# Altium schematic symbol library Luminary+Micro.SchLib: 208 symbols (part 1 of 5)
Pins are listed as number, name and electrical type; pins without a type are passive.

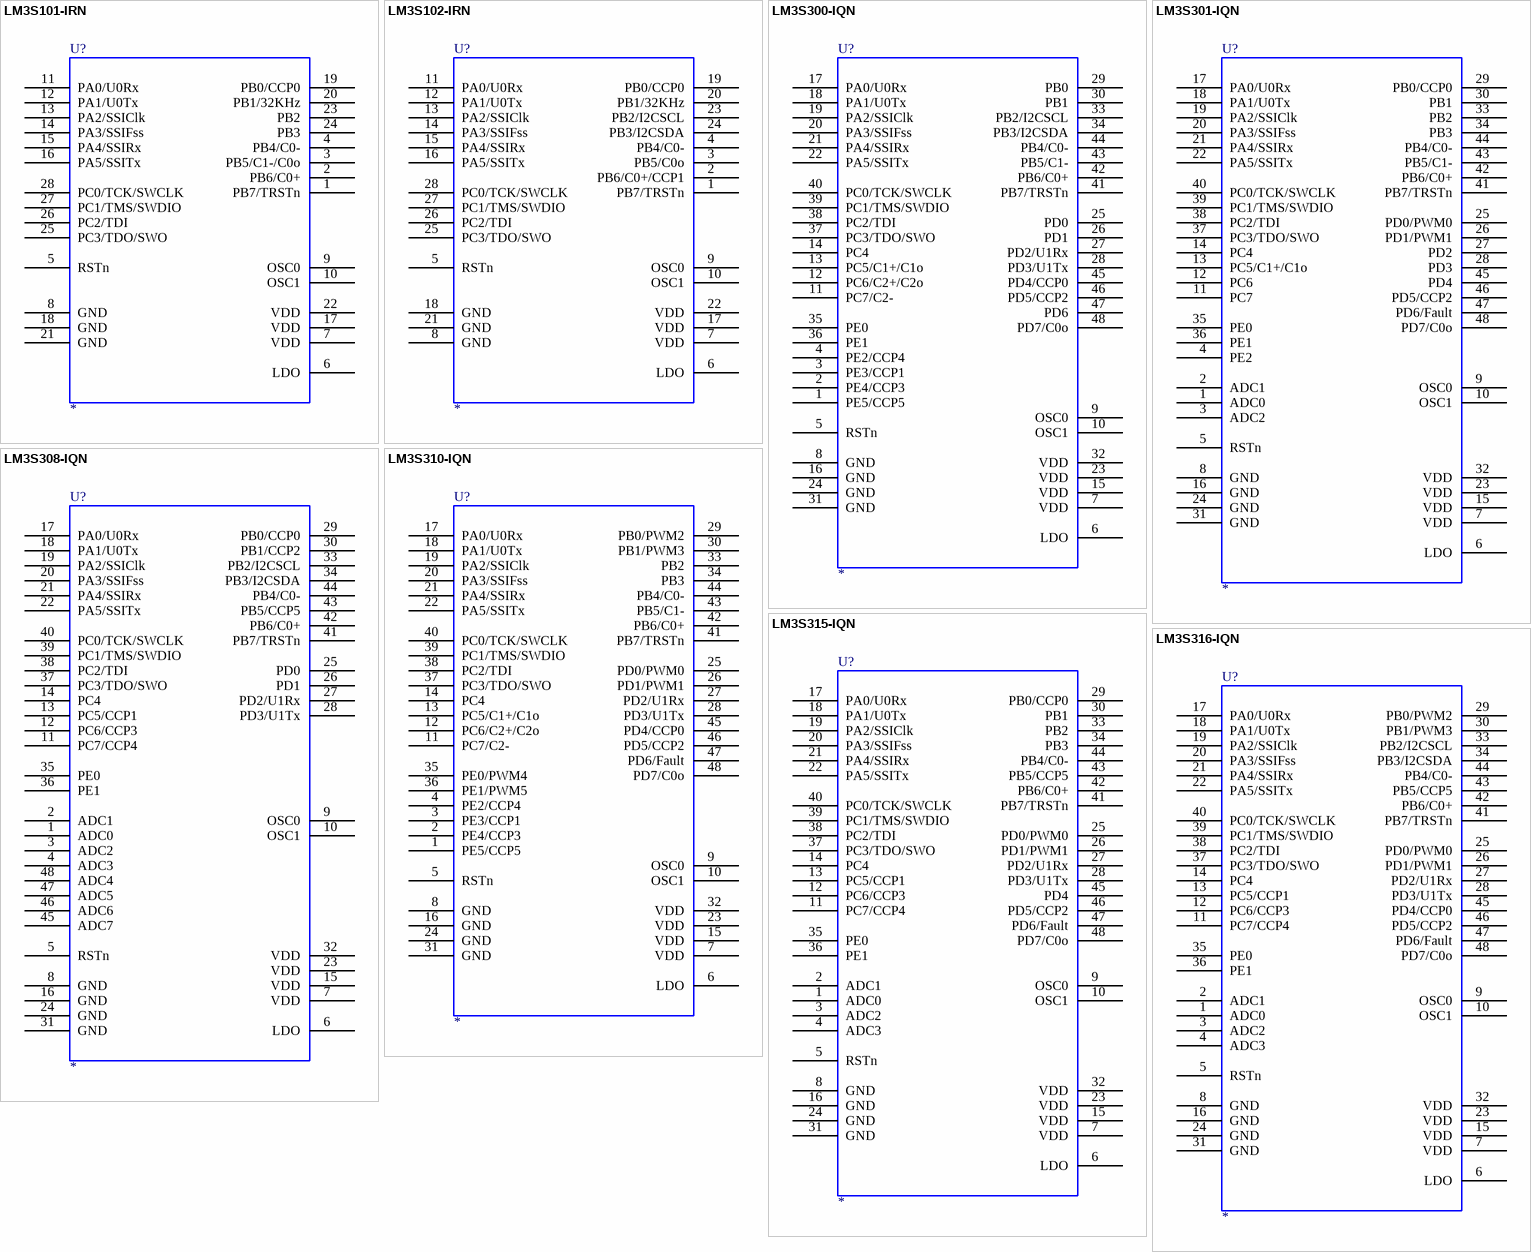
[diagram p0: symbols LM3S101-IRN to LM3S316-IQN]

## LM3S101-IRN
designator U?
Stellaris ARM Cortex-M3 Microcontroller; MFG: Luminary Micro; Ordering: LM3S101; LMI Class: Sandstorm
footprint SOIC127P1033X265-28N (SOIC,1.27mm pitch;28 pin,7.50mm W X 18.10mm L X 2.65mm H body)
pins: 1 PB7/TRSTn, 2 PB6/C0+, 3 PB5/C1-/C0o, 4 PB4/C0-, 5 RSTn, 6 LDO, 7 VDD, 8 GND, 9 OSC0, 10 OSC1, 11 PA0/U0Rx, 12 PA1/U0Tx, 13 PA2/SSIClk, 14 PA3/SSIFss, 15 PA4/SSIRx, 16 PA5/SSITx, 17 VDD, 18 GND, 19 PB0/CCP0, 20 PB1/32KHz, 21 GND, 22 VDD, 23 PB2, 24 PB3, 25 PC3/TDO/SWO, 26 PC2/TDI, 27 PC1/TMS/SWDIO, 28 PC0/TCK/SWCLK

## LM3S102-IRN
designator U?
Stellaris ARM Cortex-M3 Microcontroller; MFG: Luminary Micro; Ordering: LM3S102; LMI Class: Sandstorm
footprint SOIC127P1033X265-28N
pins: 1 PB7/TRSTn, 2 PB6/C0+/CCP1, 3 PB5/C0o, 4 PB4/C0-, 5 RSTn, 6 LDO, 7 VDD, 8 GND, 9 OSC0, 10 OSC1, 11 PA0/U0Rx, 12 PA1/U0Tx, 13 PA2/SSIClk, 14 PA3/SSIFss, 15 PA4/SSIRx, 16 PA5/SSITx, 17 VDD, 18 GND, 19 PB0/CCP0, 20 PB1/32KHz, 21 GND, 22 VDD, 23 PB2/I2CSCL, 24 PB3/I2CSDA, 25 PC3/TDO/SWO, 26 PC2/TDI, 27 PC1/TMS/SWDIO, 28 PC0/TCK/SWCLK

## LM3S300-IQN
designator U?
Stellaris ARM Cortex-M3 Microcontroller; MFG: Luminary Micro; Ordering: LM3S300; LMI Class: Sandstorm
footprint QFP50P900X900X160-48N
pins: 1 PE5/CCP5, 2 PE4/CCP3, 3 PE3/CCP1, 4 PE2/CCP4, 5 RSTn, 6 LDO, 7 VDD, 8 GND, 9 OSC0, 10 OSC1, 11 PC7/C2-, 12 PC6/C2+/C2o, 13 PC5/C1+/C1o, 14 PC4, 15 VDD, 16 GND, 17 PA0/U0Rx, 18 PA1/U0Tx, 19 PA2/SSIClk, 20 PA3/SSIFss, 21 PA4/SSIRx, 22 PA5/SSITx, 23 VDD, 24 GND, 25 PD0, 26 PD1, 27 PD2/U1Rx, 28 PD3/U1Tx, 29 PB0, 30 PB1, 31 GND, 32 VDD, 33 PB2/I2CSCL, 34 PB3/I2CSDA, 35 PE0, 36 PE1, 37 PC3/TDO/SWO, 38 PC2/TDI, 39 PC1/TMS/SWDIO, 40 PC0/TCK/SWCLK, 41 PB7/TRSTn, 42 PB6/C0+, 43 PB5/C1-, 44 PB4/C0-, 45 PD4/CCP0, 46 PD5/CCP2, 47 PD6, 48 PD7/C0o

## LM3S301-IQN
designator U?
Stellaris ARM Cortex-M3 Microcontroller; MFG: Luminary Micro; Ordering: LM3S301; LMI Class: Sandstorm
footprint QFP50P900X900X160-48N
pins: 1 ADC0, 2 ADC1, 3 ADC2, 4 PE2, 5 RSTn, 6 LDO, 7 VDD, 8 GND, 9 OSC0, 10 OSC1, 11 PC7, 12 PC6, 13 PC5/C1+/C1o, 14 PC4, 15 VDD, 16 GND, 17 PA0/U0Rx, 18 PA1/U0Tx, 19 PA2/SSIClk, 20 PA3/SSIFss, 21 PA4/SSIRx, 22 PA5/SSITx, 23 VDD, 24 GND, 25 PD0/PWM0, 26 PD1/PWM1, 27 PD2, 28 PD3, 29 PB0/CCP0, 30 PB1, 31 GND, 32 VDD, 33 PB2, 34 PB3, 35 PE0, 36 PE1, 37 PC3/TDO/SWO, 38 PC2/TDI, 39 PC1/TMS/SWDIO, 40 PC0/TCK/SWCLK, 41 PB7/TRSTn, 42 PB6/C0+, 43 PB5/C1-, 44 PB4/C0-, 45 PD4, 46 PD5/CCP2, 47 PD6/Fault, 48 PD7/C0o

## LM3S308-IQN
designator U?
Stellaris ARM Cortex-M3 Microcontroller; MFG: Luminary Micro; Ordering: LM3S308; LMI Class: Sandstorm
footprint QFP50P900X900X160-48N
pins: 1 ADC0, 2 ADC1, 3 ADC2, 4 ADC3, 5 RSTn, 6 LDO, 7 VDD, 8 GND, 9 OSC0, 10 OSC1, 11 PC7/CCP4, 12 PC6/CCP3, 13 PC5/CCP1, 14 PC4, 15 VDD, 16 GND, 17 PA0/U0Rx, 18 PA1/U0Tx, 19 PA2/SSIClk, 20 PA3/SSIFss, 21 PA4/SSIRx, 22 PA5/SSITx, 23 VDD, 24 GND, 25 PD0, 26 PD1, 27 PD2/U1Rx, 28 PD3/U1Tx, 29 PB0/CCP0, 30 PB1/CCP2, 31 GND, 32 VDD, 33 PB2/I2CSCL, 34 PB3/I2CSDA, 35 PE0, 36 PE1, 37 PC3/TDO/SWO, 38 PC2/TDI, 39 PC1/TMS/SWDIO, 40 PC0/TCK/SWCLK, 41 PB7/TRSTn, 42 PB6/C0+, 43 PB5/CCP5, 44 PB4/C0-, 45 ADC7, 46 ADC6, 47 ADC5, 48 ADC4

## LM3S310-IQN
designator U?
Stellaris ARM Cortex-M3 Microcontroller; MFG: Luminary Micro; Ordering: LM3S310; LMI Class: Sandstorm
footprint QFP50P900X900X160-48N
pins: 1 PE5/CCP5, 2 PE4/CCP3, 3 PE3/CCP1, 4 PE2/CCP4, 5 RSTn, 6 LDO, 7 VDD, 8 GND, 9 OSC0, 10 OSC1, 11 PC7/C2-, 12 PC6/C2+/C2o, 13 PC5/C1+/C1o, 14 PC4, 15 VDD, 16 GND, 17 PA0/U0Rx, 18 PA1/U0Tx, 19 PA2/SSIClk, 20 PA3/SSIFss, 21 PA4/SSIRx, 22 PA5/SSITx, 23 VDD, 24 GND, 25 PD0/PWM0, 26 PD1/PWM1, 27 PD2/U1Rx, 28 PD3/U1Tx, 29 PB0/PWM2, 30 PB1/PWM3, 31 GND, 32 VDD, 33 PB2, 34 PB3, 35 PE0/PWM4, 36 PE1/PWM5, 37 PC3/TDO/SWO, 38 PC2/TDI, 39 PC1/TMS/SWDIO, 40 PC0/TCK/SWCLK, 41 PB7/TRSTn, 42 PB6/C0+, 43 PB5/C1-, 44 PB4/C0-, 45 PD4/CCP0, 46 PD5/CCP2, 47 PD6/Fault, 48 PD7/C0o

## LM3S315-IQN
designator U?
Stellaris ARM Cortex-M3 Microcontroller; MFG: Luminary Micro; Ordering: LM3S315; LMI Class: Sandstorm
footprint QFP50P900X900X160-48N
pins: 1 ADC0, 2 ADC1, 3 ADC2, 4 ADC3, 5 RSTn, 6 LDO, 7 VDD, 8 GND, 9 OSC0, 10 OSC1, 11 PC7/CCP4, 12 PC6/CCP3, 13 PC5/CCP1, 14 PC4, 15 VDD, 16 GND, 17 PA0/U0Rx, 18 PA1/U0Tx, 19 PA2/SSIClk, 20 PA3/SSIFss, 21 PA4/SSIRx, 22 PA5/SSITx, 23 VDD, 24 GND, 25 PD0/PWM0, 26 PD1/PWM1, 27 PD2/U1Rx, 28 PD3/U1Tx, 29 PB0/CCP0, 30 PB1, 31 GND, 32 VDD, 33 PB2, 34 PB3, 35 PE0, 36 PE1, 37 PC3/TDO/SWO, 38 PC2/TDI, 39 PC1/TMS/SWDIO, 40 PC0/TCK/SWCLK, 41 PB7/TRSTn, 42 PB6/C0+, 43 PB5/CCP5, 44 PB4/C0-, 45 PD4, 46 PD5/CCP2, 47 PD6/Fault, 48 PD7/C0o

## LM3S316-IQN
designator U?
Stellaris ARM Cortex-M3 Microcontroller; MFG: Luminary Micro; Ordering: LM3S316; LMI Class: Sandstorm
footprint QFP50P900X900X160-48N
pins: 1 ADC0, 2 ADC1, 3 ADC2, 4 ADC3, 5 RSTn, 6 LDO, 7 VDD, 8 GND, 9 OSC0, 10 OSC1, 11 PC7/CCP4, 12 PC6/CCP3, 13 PC5/CCP1, 14 PC4, 15 VDD, 16 GND, 17 PA0/U0Rx, 18 PA1/U0Tx, 19 PA2/SSIClk, 20 PA3/SSIFss, 21 PA4/SSIRx, 22 PA5/SSITx, 23 VDD, 24 GND, 25 PD0/PWM0, 26 PD1/PWM1, 27 PD2/U1Rx, 28 PD3/U1Tx, 29 PB0/PWM2, 30 PB1/PWM3, 31 GND, 32 VDD, 33 PB2/I2CSCL, 34 PB3/I2CSDA, 35 PE0, 36 PE1, 37 PC3/TDO/SWO, 38 PC2/TDI, 39 PC1/TMS/SWDIO, 40 PC0/TCK/SWCLK, 41 PB7/TRSTn, 42 PB6/C0+, 43 PB5/CCP5, 44 PB4/C0-, 45 PD4/CCP0, 46 PD5/CCP2, 47 PD6/Fault, 48 PD7/C0o

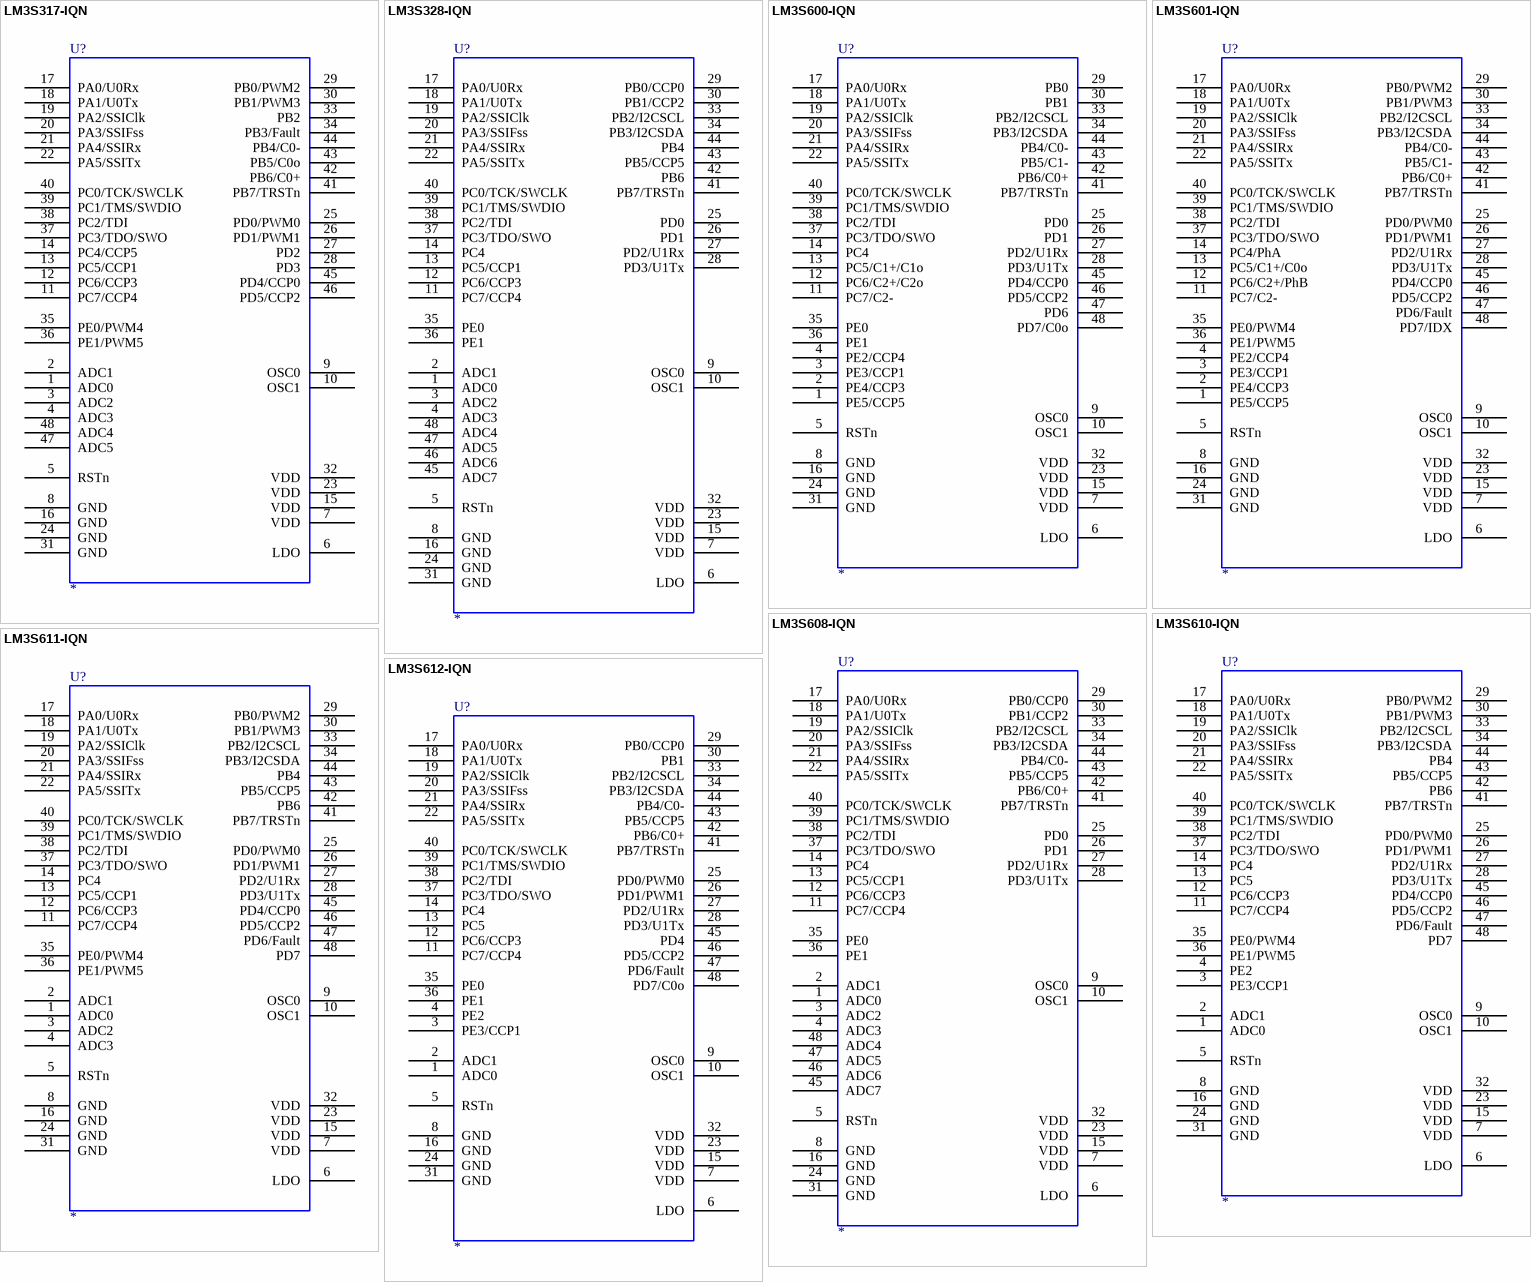
[diagram p1: symbols LM3S317-IQN to LM3S612-IQN]

## LM3S317-IQN
designator U?
Stellaris ARM Cortex-M3 Microcontroller; MFG: Luminary Micro; Ordering: LM3S317; LMI Class: Sandstorm
footprint QFP50P900X900X160-48N
pins: 1 ADC0, 2 ADC1, 3 ADC2, 4 ADC3, 5 RSTn, 6 LDO, 7 VDD, 8 GND, 9 OSC0, 10 OSC1, 11 PC7/CCP4, 12 PC6/CCP3, 13 PC5/CCP1, 14 PC4/CCP5, 15 VDD, 16 GND, 17 PA0/U0Rx, 18 PA1/U0Tx, 19 PA2/SSIClk, 20 PA3/SSIFss, 21 PA4/SSIRx, 22 PA5/SSITx, 23 VDD, 24 GND, 25 PD0/PWM0, 26 PD1/PWM1, 27 PD2, 28 PD3, 29 PB0/PWM2, 30 PB1/PWM3, 31 GND, 32 VDD, 33 PB2, 34 PB3/Fault, 35 PE0/PWM4, 36 PE1/PWM5, 37 PC3/TDO/SWO, 38 PC2/TDI, 39 PC1/TMS/SWDIO, 40 PC0/TCK/SWCLK, 41 PB7/TRSTn, 42 PB6/C0+, 43 PB5/C0o, 44 PB4/C0-, 45 PD4/CCP0, 46 PD5/CCP2, 47 ADC5, 48 ADC4

## LM3S328-IQN
designator U?
Stellaris ARM Cortex-M3 Microcontroller; MFG: Luminary Micro; Ordering: LM3S328; LMI Class: Sandstorm
footprint QFP50P900X900X160-48N
pins: 1 ADC0, 2 ADC1, 3 ADC2, 4 ADC3, 5 RSTn, 6 LDO, 7 VDD, 8 GND, 9 OSC0, 10 OSC1, 11 PC7/CCP4, 12 PC6/CCP3, 13 PC5/CCP1, 14 PC4, 15 VDD, 16 GND, 17 PA0/U0Rx, 18 PA1/U0Tx, 19 PA2/SSIClk, 20 PA3/SSIFss, 21 PA4/SSIRx, 22 PA5/SSITx, 23 VDD, 24 GND, 25 PD0, 26 PD1, 27 PD2/U1Rx, 28 PD3/U1Tx, 29 PB0/CCP0, 30 PB1/CCP2, 31 GND, 32 VDD, 33 PB2/I2CSCL, 34 PB3/I2CSDA, 35 PE0, 36 PE1, 37 PC3/TDO/SWO, 38 PC2/TDI, 39 PC1/TMS/SWDIO, 40 PC0/TCK/SWCLK, 41 PB7/TRSTn, 42 PB6, 43 PB5/CCP5, 44 PB4, 45 ADC7, 46 ADC6, 47 ADC5, 48 ADC4

## LM3S600-IQN
designator U?
Stellaris ARM Cortex-M3 Microcontroller; MFG: Luminary Micro; Ordering: LM3S600; LMI Class: Sandstorm
footprint QFP50P900X900X160-48N
pins: 1 PE5/CCP5, 2 PE4/CCP3, 3 PE3/CCP1, 4 PE2/CCP4, 5 RSTn, 6 LDO, 7 VDD, 8 GND, 9 OSC0, 10 OSC1, 11 PC7/C2-, 12 PC6/C2+/C2o, 13 PC5/C1+/C1o, 14 PC4, 15 VDD, 16 GND, 17 PA0/U0Rx, 18 PA1/U0Tx, 19 PA2/SSIClk, 20 PA3/SSIFss, 21 PA4/SSIRx, 22 PA5/SSITx, 23 VDD, 24 GND, 25 PD0, 26 PD1, 27 PD2/U1Rx, 28 PD3/U1Tx, 29 PB0, 30 PB1, 31 GND, 32 VDD, 33 PB2/I2CSCL, 34 PB3/I2CSDA, 35 PE0, 36 PE1, 37 PC3/TDO/SWO, 38 PC2/TDI, 39 PC1/TMS/SWDIO, 40 PC0/TCK/SWCLK, 41 PB7/TRSTn, 42 PB6/C0+, 43 PB5/C1-, 44 PB4/C0-, 45 PD4/CCP0, 46 PD5/CCP2, 47 PD6, 48 PD7/C0o

## LM3S601-IQN
designator U?
Stellaris ARM Cortex-M3 Microcontroller; MFG: Luminary Micro; Ordering: LM3S601; LMI Class: Sandstorm
footprint QFP50P900X900X160-48N
pins: 1 PE5/CCP5, 2 PE4/CCP3, 3 PE3/CCP1, 4 PE2/CCP4, 5 RSTn, 6 LDO, 7 VDD, 8 GND, 9 OSC0, 10 OSC1, 11 PC7/C2-, 12 PC6/C2+/PhB, 13 PC5/C1+/C0o, 14 PC4/PhA, 15 VDD, 16 GND, 17 PA0/U0Rx, 18 PA1/U0Tx, 19 PA2/SSIClk, 20 PA3/SSIFss, 21 PA4/SSIRx, 22 PA5/SSITx, 23 VDD, 24 GND, 25 PD0/PWM0, 26 PD1/PWM1, 27 PD2/U1Rx, 28 PD3/U1Tx, 29 PB0/PWM2, 30 PB1/PWM3, 31 GND, 32 VDD, 33 PB2/I2CSCL, 34 PB3/I2CSDA, 35 PE0/PWM4, 36 PE1/PWM5, 37 PC3/TDO/SWO, 38 PC2/TDI, 39 PC1/TMS/SWDIO, 40 PC0/TCK/SWCLK, 41 PB7/TRSTn, 42 PB6/C0+, 43 PB5/C1-, 44 PB4/C0-, 45 PD4/CCP0, 46 PD5/CCP2, 47 PD6/Fault, 48 PD7/IDX

## LM3S608-IQN
designator U?
Stellaris ARM Cortex-M3 Microcontroller; MFG: Luminary Micro; Ordering: LM3S608; LMI Class: Sandstorm
footprint QFP50P900X900X160-48N
pins: 1 ADC0, 2 ADC1, 3 ADC2, 4 ADC3, 5 RSTn, 6 LDO, 7 VDD, 8 GND, 9 OSC0, 10 OSC1, 11 PC7/CCP4, 12 PC6/CCP3, 13 PC5/CCP1, 14 PC4, 15 VDD, 16 GND, 17 PA0/U0Rx, 18 PA1/U0Tx, 19 PA2/SSIClk, 20 PA3/SSIFss, 21 PA4/SSIRx, 22 PA5/SSITx, 23 VDD, 24 GND, 25 PD0, 26 PD1, 27 PD2/U1Rx, 28 PD3/U1Tx, 29 PB0/CCP0, 30 PB1/CCP2, 31 GND, 32 VDD, 33 PB2/I2CSCL, 34 PB3/I2CSDA, 35 PE0, 36 PE1, 37 PC3/TDO/SWO, 38 PC2/TDI, 39 PC1/TMS/SWDIO, 40 PC0/TCK/SWCLK, 41 PB7/TRSTn, 42 PB6/C0+, 43 PB5/CCP5, 44 PB4/C0-, 45 ADC7, 46 ADC6, 47 ADC5, 48 ADC4

## LM3S610-IQN
designator U?
Stellaris ARM Cortex-M3 Microcontroller; MFG: Luminary Micro; Ordering: LM3S610; LMI Class: Sandstorm
footprint QFP50P900X900X160-48N
pins: 1 ADC0, 2 ADC1, 3 PE3/CCP1, 4 PE2, 5 RSTn, 6 LDO, 7 VDD, 8 GND, 9 OSC0, 10 OSC1, 11 PC7/CCP4, 12 PC6/CCP3, 13 PC5, 14 PC4, 15 VDD, 16 GND, 17 PA0/U0Rx, 18 PA1/U0Tx, 19 PA2/SSIClk, 20 PA3/SSIFss, 21 PA4/SSIRx, 22 PA5/SSITx, 23 VDD, 24 GND, 25 PD0/PWM0, 26 PD1/PWM1, 27 PD2/U1Rx, 28 PD3/U1Tx, 29 PB0/PWM2, 30 PB1/PWM3, 31 GND, 32 VDD, 33 PB2/I2CSCL, 34 PB3/I2CSDA, 35 PE0/PWM4, 36 PE1/PWM5, 37 PC3/TDO/SWO, 38 PC2/TDI, 39 PC1/TMS/SWDIO, 40 PC0/TCK/SWCLK, 41 PB7/TRSTn, 42 PB6, 43 PB5/CCP5, 44 PB4, 45 PD4/CCP0, 46 PD5/CCP2, 47 PD6/Fault, 48 PD7

## LM3S611-IQN
designator U?
Stellaris ARM Cortex-M3 Microcontroller; MFG: Luminary Micro; Ordering: LM3S611; LMI Class: Sandstorm
footprint QFP50P900X900X160-48N
pins: 1 ADC0, 2 ADC1, 3 ADC2, 4 ADC3, 5 RSTn, 6 LDO, 7 VDD, 8 GND, 9 OSC0, 10 OSC1, 11 PC7/CCP4, 12 PC6/CCP3, 13 PC5/CCP1, 14 PC4, 15 VDD, 16 GND, 17 PA0/U0Rx, 18 PA1/U0Tx, 19 PA2/SSIClk, 20 PA3/SSIFss, 21 PA4/SSIRx, 22 PA5/SSITx, 23 VDD, 24 GND, 25 PD0/PWM0, 26 PD1/PWM1, 27 PD2/U1Rx, 28 PD3/U1Tx, 29 PB0/PWM2, 30 PB1/PWM3, 31 GND, 32 VDD, 33 PB2/I2CSCL, 34 PB3/I2CSDA, 35 PE0/PWM4, 36 PE1/PWM5, 37 PC3/TDO/SWO, 38 PC2/TDI, 39 PC1/TMS/SWDIO, 40 PC0/TCK/SWCLK, 41 PB7/TRSTn, 42 PB6, 43 PB5/CCP5, 44 PB4, 45 PD4/CCP0, 46 PD5/CCP2, 47 PD6/Fault, 48 PD7

## LM3S612-IQN
designator U?
Stellaris ARM Cortex-M3 Microcontroller; MFG: Luminary Micro; Ordering: LM3S612; LMI Class: Sandstorm
footprint QFP50P900X900X160-48N
pins: 1 ADC0, 2 ADC1, 3 PE3/CCP1, 4 PE2, 5 RSTn, 6 LDO, 7 VDD, 8 GND, 9 OSC0, 10 OSC1, 11 PC7/CCP4, 12 PC6/CCP3, 13 PC5, 14 PC4, 15 VDD, 16 GND, 17 PA0/U0Rx, 18 PA1/U0Tx, 19 PA2/SSIClk, 20 PA3/SSIFss, 21 PA4/SSIRx, 22 PA5/SSITx, 23 VDD, 24 GND, 25 PD0/PWM0, 26 PD1/PWM1, 27 PD2/U1Rx, 28 PD3/U1Tx, 29 PB0/CCP0, 30 PB1, 31 GND, 32 VDD, 33 PB2/I2CSCL, 34 PB3/I2CSDA, 35 PE0, 36 PE1, 37 PC3/TDO/SWO, 38 PC2/TDI, 39 PC1/TMS/SWDIO, 40 PC0/TCK/SWCLK, 41 PB7/TRSTn, 42 PB6/C0+, 43 PB5/CCP5, 44 PB4/C0-, 45 PD4, 46 PD5/CCP2, 47 PD6/Fault, 48 PD7/C0o

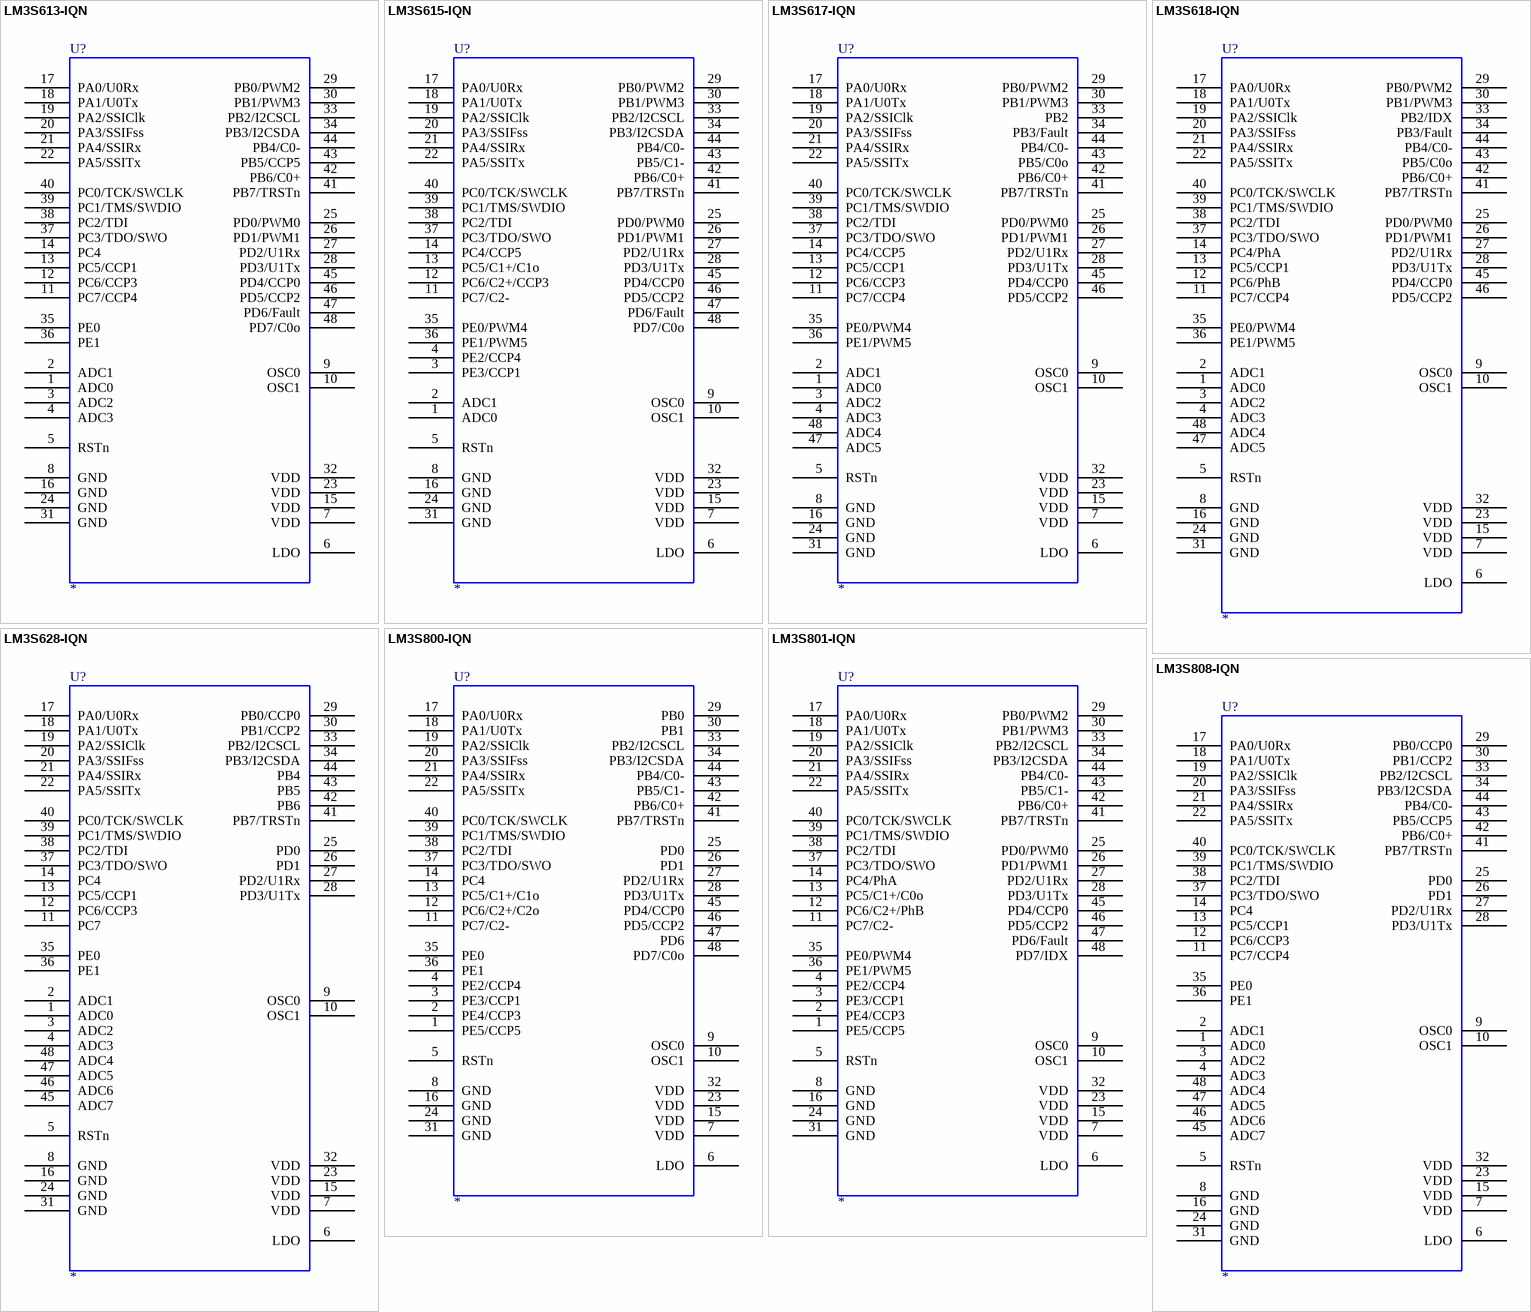
[diagram p2: symbols LM3S613-IQN to LM3S808-IQN]

## LM3S613-IQN
designator U?
Stellaris ARM Cortex-M3 Microcontroller; MFG: Luminary Micro; Ordering: LM3S613; LMI Class: Sandstorm
footprint QFP50P900X900X160-48N
pins: 1 ADC0, 2 ADC1, 3 ADC2, 4 ADC3, 5 RSTn, 6 LDO, 7 VDD, 8 GND, 9 OSC0, 10 OSC1, 11 PC7/CCP4, 12 PC6/CCP3, 13 PC5/CCP1, 14 PC4, 15 VDD, 16 GND, 17 PA0/U0Rx, 18 PA1/U0Tx, 19 PA2/SSIClk, 20 PA3/SSIFss, 21 PA4/SSIRx, 22 PA5/SSITx, 23 VDD, 24 GND, 25 PD0/PWM0, 26 PD1/PWM1, 27 PD2/U1Rx, 28 PD3/U1Tx, 29 PB0/PWM2, 30 PB1/PWM3, 31 GND, 32 VDD, 33 PB2/I2CSCL, 34 PB3/I2CSDA, 35 PE0, 36 PE1, 37 PC3/TDO/SWO, 38 PC2/TDI, 39 PC1/TMS/SWDIO, 40 PC0/TCK/SWCLK, 41 PB7/TRSTn, 42 PB6/C0+, 43 PB5/CCP5, 44 PB4/C0-, 45 PD4/CCP0, 46 PD5/CCP2, 47 PD6/Fault, 48 PD7/C0o

## LM3S615-IQN
designator U?
Stellaris ARM Cortex-M3 Microcontroller; MFG: Luminary Micro; Ordering: LM3S615; LMI Class: Sandstorm
footprint QFP50P900X900X160-48N
pins: 1 ADC0, 2 ADC1, 3 PE3/CCP1, 4 PE2/CCP4, 5 RSTn, 6 LDO, 7 VDD, 8 GND, 9 OSC0, 10 OSC1, 11 PC7/C2-, 12 PC6/C2+/CCP3, 13 PC5/C1+/C1o, 14 PC4/CCP5, 15 VDD, 16 GND, 17 PA0/U0Rx, 18 PA1/U0Tx, 19 PA2/SSIClk, 20 PA3/SSIFss, 21 PA4/SSIRx, 22 PA5/SSITx, 23 VDD, 24 GND, 25 PD0/PWM0, 26 PD1/PWM1, 27 PD2/U1Rx, 28 PD3/U1Tx, 29 PB0/PWM2, 30 PB1/PWM3, 31 GND, 32 VDD, 33 PB2/I2CSCL, 34 PB3/I2CSDA, 35 PE0/PWM4, 36 PE1/PWM5, 37 PC3/TDO/SWO, 38 PC2/TDI, 39 PC1/TMS/SWDIO, 40 PC0/TCK/SWCLK, 41 PB7/TRSTn, 42 PB6/C0+, 43 PB5/C1-, 44 PB4/C0-, 45 PD4/CCP0, 46 PD5/CCP2, 47 PD6/Fault, 48 PD7/C0o

## LM3S617-IQN
designator U?
Stellaris ARM Cortex-M3 Microcontroller; MFG: Luminary Micro; Ordering: LM3S617; LMI Class: Sandstorm
footprint QFP50P900X900X160-48N
pins: 1 ADC0, 2 ADC1, 3 ADC2, 4 ADC3, 5 RSTn, 6 LDO, 7 VDD, 8 GND, 9 OSC0, 10 OSC1, 11 PC7/CCP4, 12 PC6/CCP3, 13 PC5/CCP1, 14 PC4/CCP5, 15 VDD, 16 GND, 17 PA0/U0Rx, 18 PA1/U0Tx, 19 PA2/SSIClk, 20 PA3/SSIFss, 21 PA4/SSIRx, 22 PA5/SSITx, 23 VDD, 24 GND, 25 PD0/PWM0, 26 PD1/PWM1, 27 PD2/U1Rx, 28 PD3/U1Tx, 29 PB0/PWM2, 30 PB1/PWM3, 31 GND, 32 VDD, 33 PB2, 34 PB3/Fault, 35 PE0/PWM4, 36 PE1/PWM5, 37 PC3/TDO/SWO, 38 PC2/TDI, 39 PC1/TMS/SWDIO, 40 PC0/TCK/SWCLK, 41 PB7/TRSTn, 42 PB6/C0+, 43 PB5/C0o, 44 PB4/C0-, 45 PD4/CCP0, 46 PD5/CCP2, 47 ADC5, 48 ADC4

## LM3S618-IQN
designator U?
Stellaris ARM Cortex-M3 Microcontroller; MFG: Luminary Micro; Ordering: LM3S618; LMI Class: Sandstorm
footprint QFP50P900X900X160-48N
pins: 1 ADC0, 2 ADC1, 3 ADC2, 4 ADC3, 5 RSTn, 6 LDO, 7 VDD, 8 GND, 9 OSC0, 10 OSC1, 11 PC7/CCP4, 12 PC6/PhB, 13 PC5/CCP1, 14 PC4/PhA, 15 VDD, 16 GND, 17 PA0/U0Rx, 18 PA1/U0Tx, 19 PA2/SSIClk, 20 PA3/SSIFss, 21 PA4/SSIRx, 22 PA5/SSITx, 23 VDD, 24 GND, 25 PD0/PWM0, 26 PD1/PWM1, 27 PD2/U1Rx, 28 PD3/U1Tx, 29 PB0/PWM2, 30 PB1/PWM3, 31 GND, 32 VDD, 33 PB2/IDX, 34 PB3/Fault, 35 PE0/PWM4, 36 PE1/PWM5, 37 PC3/TDO/SWO, 38 PC2/TDI, 39 PC1/TMS/SWDIO, 40 PC0/TCK/SWCLK, 41 PB7/TRSTn, 42 PB6/C0+, 43 PB5/C0o, 44 PB4/C0-, 45 PD4/CCP0, 46 PD5/CCP2, 47 ADC5, 48 ADC4

## LM3S628-IQN
designator U?
Stellaris ARM Cortex-M3 Microcontroller; MFG: Luminary Micro; Ordering: LM3S628; LMI Class: Sandstorm
footprint QFP50P900X900X160-48N
pins: 1 ADC0, 2 ADC1, 3 ADC2, 4 ADC3, 5 RSTn, 6 LDO, 7 VDD, 8 GND, 9 OSC0, 10 OSC1, 11 PC7, 12 PC6/CCP3, 13 PC5/CCP1, 14 PC4, 15 VDD, 16 GND, 17 PA0/U0Rx, 18 PA1/U0Tx, 19 PA2/SSIClk, 20 PA3/SSIFss, 21 PA4/SSIRx, 22 PA5/SSITx, 23 VDD, 24 GND, 25 PD0, 26 PD1, 27 PD2/U1Rx, 28 PD3/U1Tx, 29 PB0/CCP0, 30 PB1/CCP2, 31 GND, 32 VDD, 33 PB2/I2CSCL, 34 PB3/I2CSDA, 35 PE0, 36 PE1, 37 PC3/TDO/SWO, 38 PC2/TDI, 39 PC1/TMS/SWDIO, 40 PC0/TCK/SWCLK, 41 PB7/TRSTn, 42 PB6, 43 PB5, 44 PB4, 45 ADC7, 46 ADC6, 47 ADC5, 48 ADC4

## LM3S800-IQN
designator U?
Stellaris ARM Cortex-M3 Microcontroller; MFG: Luminary Micro; Ordering: LM3S800; LMI Class: Sandstorm
footprint QFP50P900X900X160-48N
pins: 1 PE5/CCP5, 2 PE4/CCP3, 3 PE3/CCP1, 4 PE2/CCP4, 5 RSTn, 6 LDO, 7 VDD, 8 GND, 9 OSC0, 10 OSC1, 11 PC7/C2-, 12 PC6/C2+/C2o, 13 PC5/C1+/C1o, 14 PC4, 15 VDD, 16 GND, 17 PA0/U0Rx, 18 PA1/U0Tx, 19 PA2/SSIClk, 20 PA3/SSIFss, 21 PA4/SSIRx, 22 PA5/SSITx, 23 VDD, 24 GND, 25 PD0, 26 PD1, 27 PD2/U1Rx, 28 PD3/U1Tx, 29 PB0, 30 PB1, 31 GND, 32 VDD, 33 PB2/I2CSCL, 34 PB3/I2CSDA, 35 PE0, 36 PE1, 37 PC3/TDO/SWO, 38 PC2/TDI, 39 PC1/TMS/SWDIO, 40 PC0/TCK/SWCLK, 41 PB7/TRSTn, 42 PB6/C0+, 43 PB5/C1-, 44 PB4/C0-, 45 PD4/CCP0, 46 PD5/CCP2, 47 PD6, 48 PD7/C0o

## LM3S801-IQN
designator U?
Stellaris ARM Cortex-M3 Microcontroller; MFG: Luminary Micro; Ordering: LM3S801; LMI Class: Sandstorm
footprint QFP50P900X900X160-48N
pins: 1 PE5/CCP5, 2 PE4/CCP3, 3 PE3/CCP1, 4 PE2/CCP4, 5 RSTn, 6 LDO, 7 VDD, 8 GND, 9 OSC0, 10 OSC1, 11 PC7/C2-, 12 PC6/C2+/PhB, 13 PC5/C1+/C0o, 14 PC4/PhA, 15 VDD, 16 GND, 17 PA0/U0Rx, 18 PA1/U0Tx, 19 PA2/SSIClk, 20 PA3/SSIFss, 21 PA4/SSIRx, 22 PA5/SSITx, 23 VDD, 24 GND, 25 PD0/PWM0, 26 PD1/PWM1, 27 PD2/U1Rx, 28 PD3/U1Tx, 29 PB0/PWM2, 30 PB1/PWM3, 31 GND, 32 VDD, 33 PB2/I2CSCL, 34 PB3/I2CSDA, 35 PE0/PWM4, 36 PE1/PWM5, 37 PC3/TDO/SWO, 38 PC2/TDI, 39 PC1/TMS/SWDIO, 40 PC0/TCK/SWCLK, 41 PB7/TRSTn, 42 PB6/C0+, 43 PB5/C1-, 44 PB4/C0-, 45 PD4/CCP0, 46 PD5/CCP2, 47 PD6/Fault, 48 PD7/IDX

## LM3S808-IQN
designator U?
Stellaris ARM Cortex-M3 Microcontroller; MFG: Luminary Micro; Ordering: LM3S808; LMI Class: Sandstorm
footprint QFP50P900X900X160-48N
pins: 1 ADC0, 2 ADC1, 3 ADC2, 4 ADC3, 5 RSTn, 6 LDO, 7 VDD, 8 GND, 9 OSC0, 10 OSC1, 11 PC7/CCP4, 12 PC6/CCP3, 13 PC5/CCP1, 14 PC4, 15 VDD, 16 GND, 17 PA0/U0Rx, 18 PA1/U0Tx, 19 PA2/SSIClk, 20 PA3/SSIFss, 21 PA4/SSIRx, 22 PA5/SSITx, 23 VDD, 24 GND, 25 PD0, 26 PD1, 27 PD2/U1Rx, 28 PD3/U1Tx, 29 PB0/CCP0, 30 PB1/CCP2, 31 GND, 32 VDD, 33 PB2/I2CSCL, 34 PB3/I2CSDA, 35 PE0, 36 PE1, 37 PC3/TDO/SWO, 38 PC2/TDI, 39 PC1/TMS/SWDIO, 40 PC0/TCK/SWCLK, 41 PB7/TRSTn, 42 PB6/C0+, 43 PB5/CCP5, 44 PB4/C0-, 45 ADC7, 46 ADC6, 47 ADC5, 48 ADC4

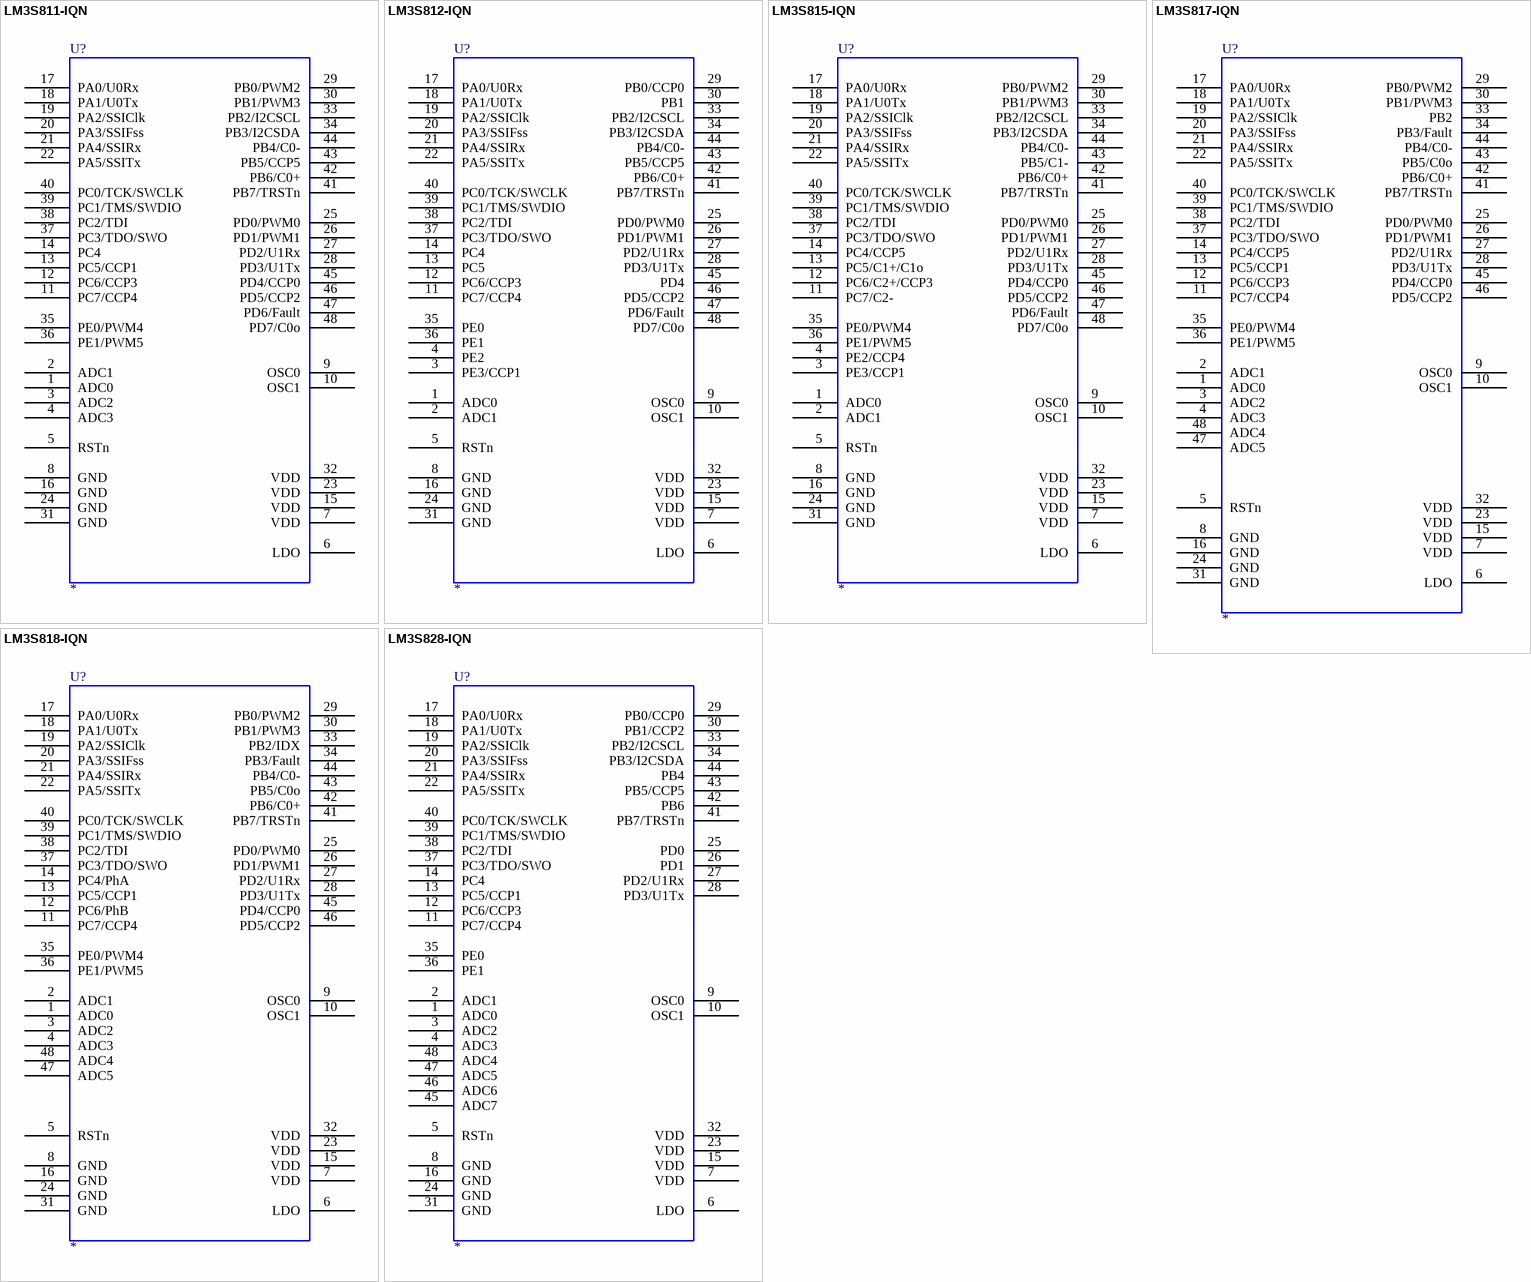
[diagram p3: symbols LM3S811-IQN to LM3S828-IQN]

## LM3S811-IQN
designator U?
Stellaris ARM Cortex-M3 Microcontroller; MFG: Luminary Micro; Ordering: LM3S811; LMI Class: Sandstorm
footprint QFP50P900X900X160-48N
pins: 1 ADC0, 2 ADC1, 3 ADC2, 4 ADC3, 5 RSTn, 6 LDO, 7 VDD, 8 GND, 9 OSC0, 10 OSC1, 11 PC7/CCP4, 12 PC6/CCP3, 13 PC5/CCP1, 14 PC4, 15 VDD, 16 GND, 17 PA0/U0Rx, 18 PA1/U0Tx, 19 PA2/SSIClk, 20 PA3/SSIFss, 21 PA4/SSIRx, 22 PA5/SSITx, 23 VDD, 24 GND, 25 PD0/PWM0, 26 PD1/PWM1, 27 PD2/U1Rx, 28 PD3/U1Tx, 29 PB0/PWM2, 30 PB1/PWM3, 31 GND, 32 VDD, 33 PB2/I2CSCL, 34 PB3/I2CSDA, 35 PE0/PWM4, 36 PE1/PWM5, 37 PC3/TDO/SWO, 38 PC2/TDI, 39 PC1/TMS/SWDIO, 40 PC0/TCK/SWCLK, 41 PB7/TRSTn, 42 PB6/C0+, 43 PB5/CCP5, 44 PB4/C0-, 45 PD4/CCP0, 46 PD5/CCP2, 47 PD6/Fault, 48 PD7/C0o

## LM3S812-IQN
designator U?
Stellaris ARM Cortex-M3 Microcontroller; MFG: Luminary Micro; Ordering: LM3S812; LMI Class: Sandstorm
footprint QFP50P900X900X160-48N
pins: 1 ADC0, 2 ADC1, 3 PE3/CCP1, 4 PE2, 5 RSTn, 6 LDO, 7 VDD, 8 GND, 9 OSC0, 10 OSC1, 11 PC7/CCP4, 12 PC6/CCP3, 13 PC5, 14 PC4, 15 VDD, 16 GND, 17 PA0/U0Rx, 18 PA1/U0Tx, 19 PA2/SSIClk, 20 PA3/SSIFss, 21 PA4/SSIRx, 22 PA5/SSITx, 23 VDD, 24 GND, 25 PD0/PWM0, 26 PD1/PWM1, 27 PD2/U1Rx, 28 PD3/U1Tx, 29 PB0/CCP0, 30 PB1, 31 GND, 32 VDD, 33 PB2/I2CSCL, 34 PB3/I2CSDA, 35 PE0, 36 PE1, 37 PC3/TDO/SWO, 38 PC2/TDI, 39 PC1/TMS/SWDIO, 40 PC0/TCK/SWCLK, 41 PB7/TRSTn, 42 PB6/C0+, 43 PB5/CCP5, 44 PB4/C0-, 45 PD4, 46 PD5/CCP2, 47 PD6/Fault, 48 PD7/C0o

## LM3S815-IQN
designator U?
Stellaris ARM Cortex-M3 Microcontroller; MFG: Luminary Micro; Ordering: LM3S815; LMI Class: Sandstorm
footprint QFP50P900X900X160-48N
pins: 1 ADC0, 2 ADC1, 3 PE3/CCP1, 4 PE2/CCP4, 5 RSTn, 6 LDO, 7 VDD, 8 GND, 9 OSC0, 10 OSC1, 11 PC7/C2-, 12 PC6/C2+/CCP3, 13 PC5/C1+/C1o, 14 PC4/CCP5, 15 VDD, 16 GND, 17 PA0/U0Rx, 18 PA1/U0Tx, 19 PA2/SSIClk, 20 PA3/SSIFss, 21 PA4/SSIRx, 22 PA5/SSITx, 23 VDD, 24 GND, 25 PD0/PWM0, 26 PD1/PWM1, 27 PD2/U1Rx, 28 PD3/U1Tx, 29 PB0/PWM2, 30 PB1/PWM3, 31 GND, 32 VDD, 33 PB2/I2CSCL, 34 PB3/I2CSDA, 35 PE0/PWM4, 36 PE1/PWM5, 37 PC3/TDO/SWO, 38 PC2/TDI, 39 PC1/TMS/SWDIO, 40 PC0/TCK/SWCLK, 41 PB7/TRSTn, 42 PB6/C0+, 43 PB5/C1-, 44 PB4/C0-, 45 PD4/CCP0, 46 PD5/CCP2, 47 PD6/Fault, 48 PD7/C0o

## LM3S817-IQN
designator U?
Stellaris ARM Cortex-M3 Microcontroller; MFG: Luminary Micro; Ordering: LM3S817; LMI Class: Sandstorm
footprint QFP50P900X900X160-48N
pins: 1 ADC0, 2 ADC1, 3 ADC2, 4 ADC3, 5 RSTn, 6 LDO, 7 VDD, 8 GND, 9 OSC0, 10 OSC1, 11 PC7/CCP4, 12 PC6/CCP3, 13 PC5/CCP1, 14 PC4/CCP5, 15 VDD, 16 GND, 17 PA0/U0Rx, 18 PA1/U0Tx, 19 PA2/SSIClk, 20 PA3/SSIFss, 21 PA4/SSIRx, 22 PA5/SSITx, 23 VDD, 24 GND, 25 PD0/PWM0, 26 PD1/PWM1, 27 PD2/U1Rx, 28 PD3/U1Tx, 29 PB0/PWM2, 30 PB1/PWM3, 31 GND, 32 VDD, 33 PB2, 34 PB3/Fault, 35 PE0/PWM4, 36 PE1/PWM5, 37 PC3/TDO/SWO, 38 PC2/TDI, 39 PC1/TMS/SWDIO, 40 PC0/TCK/SWCLK, 41 PB7/TRSTn, 42 PB6/C0+, 43 PB5/C0o, 44 PB4/C0-, 45 PD4/CCP0, 46 PD5/CCP2, 47 ADC5, 48 ADC4

## LM3S818-IQN
designator U?
Stellaris ARM Cortex-M3 Microcontroller; MFG: Luminary Micro; Ordering: LM3S818; LMI Class: Sandstorm
footprint QFP50P900X900X160-48N
pins: 1 ADC0, 2 ADC1, 3 ADC2, 4 ADC3, 5 RSTn, 6 LDO, 7 VDD, 8 GND, 9 OSC0, 10 OSC1, 11 PC7/CCP4, 12 PC6/PhB, 13 PC5/CCP1, 14 PC4/PhA, 15 VDD, 16 GND, 17 PA0/U0Rx, 18 PA1/U0Tx, 19 PA2/SSIClk, 20 PA3/SSIFss, 21 PA4/SSIRx, 22 PA5/SSITx, 23 VDD, 24 GND, 25 PD0/PWM0, 26 PD1/PWM1, 27 PD2/U1Rx, 28 PD3/U1Tx, 29 PB0/PWM2, 30 PB1/PWM3, 31 GND, 32 VDD, 33 PB2/IDX, 34 PB3/Fault, 35 PE0/PWM4, 36 PE1/PWM5, 37 PC3/TDO/SWO, 38 PC2/TDI, 39 PC1/TMS/SWDIO, 40 PC0/TCK/SWCLK, 41 PB7/TRSTn, 42 PB6/C0+, 43 PB5/C0o, 44 PB4/C0-, 45 PD4/CCP0, 46 PD5/CCP2, 47 ADC5, 48 ADC4

## LM3S828-IQN
designator U?
Stellaris ARM Cortex-M3 Microcontroller; MFG: Luminary Micro; Ordering: LM3S828; LMI Class: Sandstorm
footprint QFP50P900X900X160-48N
pins: 1 ADC0, 2 ADC1, 3 ADC2, 4 ADC3, 5 RSTn, 6 LDO, 7 VDD, 8 GND, 9 OSC0, 10 OSC1, 11 PC7/CCP4, 12 PC6/CCP3, 13 PC5/CCP1, 14 PC4, 15 VDD, 16 GND, 17 PA0/U0Rx, 18 PA1/U0Tx, 19 PA2/SSIClk, 20 PA3/SSIFss, 21 PA4/SSIRx, 22 PA5/SSITx, 23 VDD, 24 GND, 25 PD0, 26 PD1, 27 PD2/U1Rx, 28 PD3/U1Tx, 29 PB0/CCP0, 30 PB1/CCP2, 31 GND, 32 VDD, 33 PB2/I2CSCL, 34 PB3/I2CSDA, 35 PE0, 36 PE1, 37 PC3/TDO/SWO, 38 PC2/TDI, 39 PC1/TMS/SWDIO, 40 PC0/TCK/SWCLK, 41 PB7/TRSTn, 42 PB6, 43 PB5/CCP5, 44 PB4, 45 ADC7, 46 ADC6, 47 ADC5, 48 ADC4

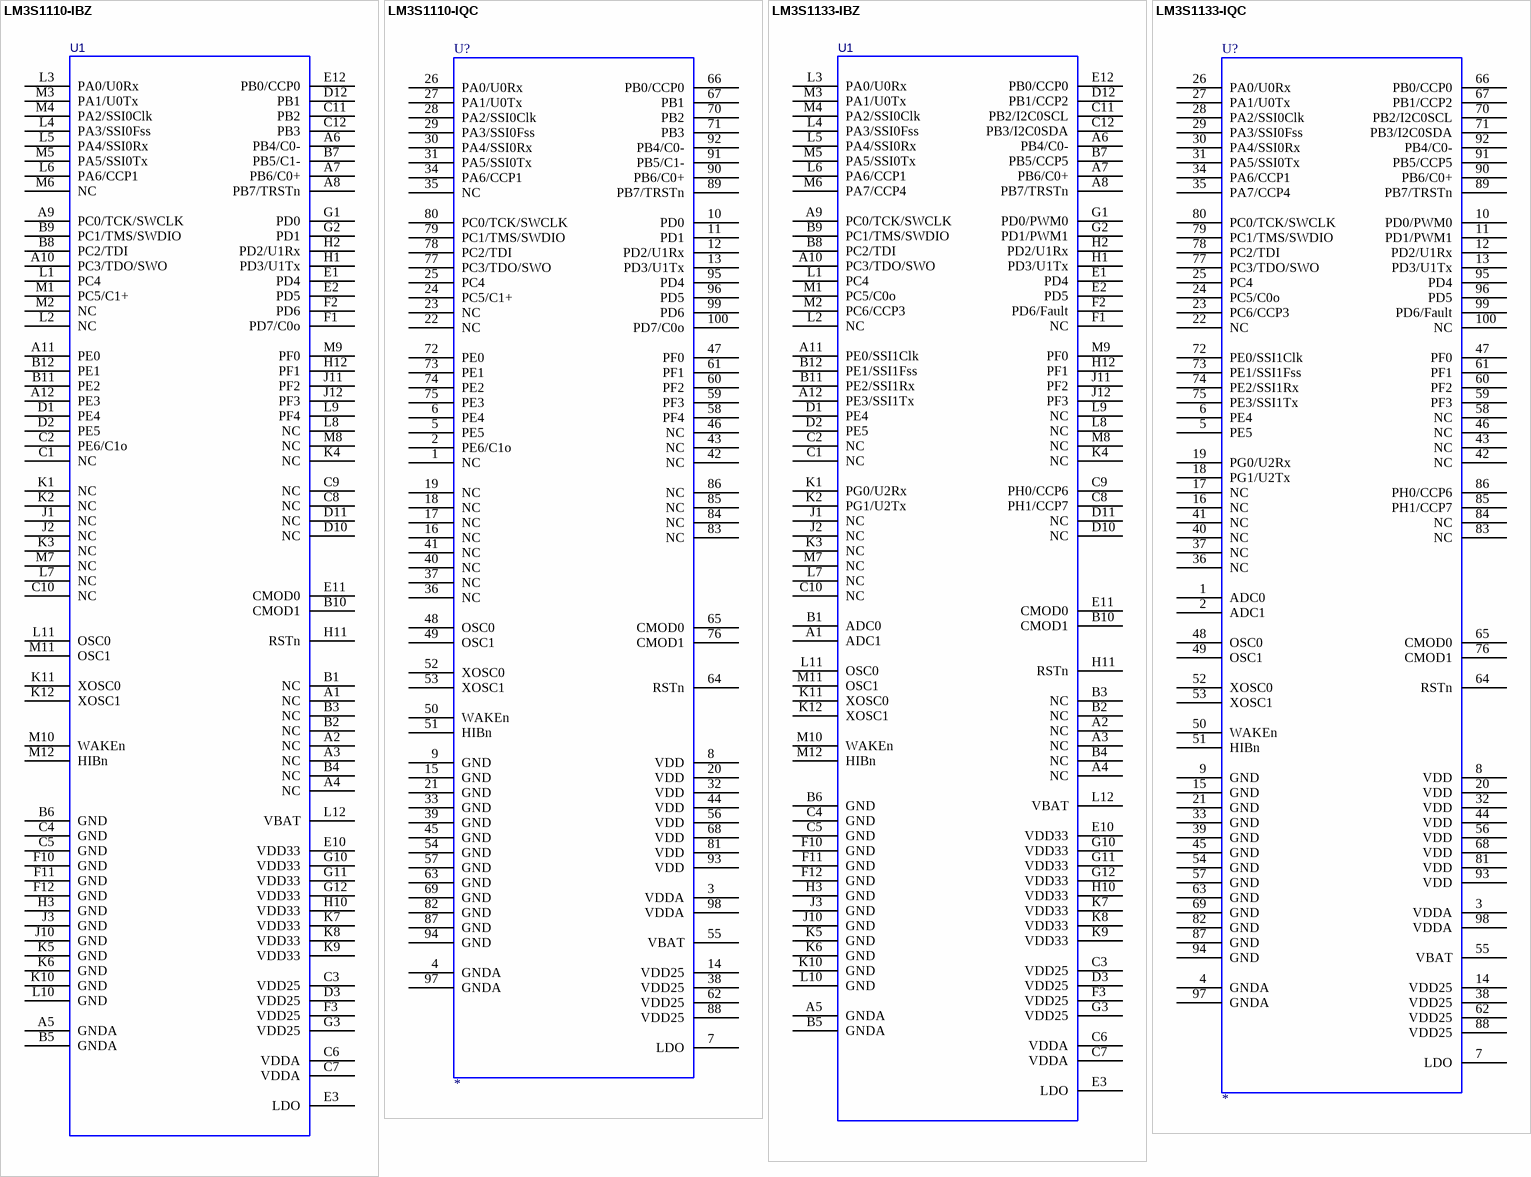
[diagram p4: symbols LM3S1110-IBZ to LM3S1133-IQC]

## LM3S1110-IBZ
designator U1
Stellaris ARM Cortex-M3 Microcontroller; MFG: Luminary Micro; Ordering: LM3S1110-IBZ; LMI Class: Fury
footprint BGA108C80P12X12_1000X1000X150 (BGA, 108-Leads, Body 10.0x10.0mm,  Pitch 0.80mm)
pins: A1 NC, A2 NC, A3 NC, A4 NC, A5 GNDA, A6 PB4/C0-, A7 PB6/C0+, A8 PB7/TRSTn, A9 PC0/TCK/SWCLK, A10 PC3/TDO/SWO, A11 PE0, A12 PE3, B1 NC, B2 NC, B3 NC, B4 NC, B5 GNDA, B6 GND, B7 PB5/C1-, B8 PC2/TDI, B9 PC1/TMS/SWDIO, B10 CMOD1, B11 PE2, B12 PE1, C1 NC, C2 PE6/C1o, C3 VDD25, C4 GND, C5 GND, C6 VDDA, C7 VDDA, C8 NC, C9 NC, C10 NC, C11 PB2, C12 PB3, D1 PE4, D2 PE5, D3 VDD25, D10 NC, D11 NC, D12 PB1, E1 PD4, E2 PD5, E3 LDO, E10 VDD33, E11 CMOD0, E12 PB0/CCP0, F1 PD7/C0o, F2 PD6, F3 VDD25, F10 GND, F11 GND, F12 GND, G1 PD0, G2 PD1, G3 VDD25, G10 VDD33, G11 VDD33, G12 VDD33, H1 PD3/U1Tx, H2 PD2/U1Rx, H3 GND, H10 VDD33, H11 RSTn, H12 PF1, J1 NC, J2 NC, J3 GND, J10 GND, J11 PF2, J12 PF3, K1 NC, K2 NC, K3 NC, K4 NC, K5 GND, K6 GND, K7 VDD33, K8 VDD33, K9 VDD33, K10 GND, K11 XOSC0, K12 XOSC1, L1 PC4, L2 NC, L3 PA0/U0Rx, L4 PA3/SSI0Fss, L5 PA4/SSI0Rx, L6 PA6/CCP1, L7 NC, L8 NC, L9 PF4, L10 GND, L11 OSC0, L12 VBAT, M1 PC5/C1+, M2 NC, M3 PA1/U0Tx, M4 PA2/SSI0Clk, M5 PA5/SSI0Tx, M6 NC, M7 NC, M8 NC, M9 PF0, M10 WAKEn, M11 OSC1, M12 HIBn

## LM3S1110-IQC
designator U?
Stellaris ARM Cortex-M3 Microcontroller; MFG: Luminary Micro; Ordering: LM3S1110-IQC; LMI Class: Fury
footprint QFP50P1600X1600X160-100N
pins: 1 NC, 2 PE6/C1o, 3 VDDA, 4 GNDA, 5 PE5, 6 PE4, 7 LDO, 8 VDD, 9 GND, 10 PD0, 11 PD1, 12 PD2/U1Rx, 13 PD3/U1Tx, 14 VDD25, 15 GND, 16 NC, 17 NC, 18 NC, 19 NC, 20 VDD, 21 GND, 22 NC, 23 NC, 24 PC5/C1+, 25 PC4, 26 PA0/U0Rx, 27 PA1/U0Tx, 28 PA2/SSI0Clk, 29 PA3/SSI0Fss, 30 PA4/SSI0Rx, 31 PA5/SSI0Tx, 32 VDD, 33 GND, 34 PA6/CCP1, 35 NC, 36 NC, 37 NC, 38 VDD25, 39 GND, 40 NC, 41 NC, 42 NC, 43 NC, 44 VDD, 45 GND, 46 NC, 47 PF0, 48 OSC0, 49 OSC1, 50 WAKEn, 51 HIBn, 52 XOSC0, 53 XOSC1, 54 GND, 55 VBAT, 56 VDD, 57 GND, 58 PF4, 59 PF3, 60 PF2, 61 PF1, 62 VDD25, 63 GND, 64 RSTn, 65 CMOD0, 66 PB0/CCP0, 67 PB1, 68 VDD, 69 GND, 70 PB2, 71 PB3, 72 PE0, 73 PE1, 74 PE2, 75 PE3, 76 CMOD1, 77 PC3/TDO/SWO, 78 PC2/TDI, 79 PC1/TMS/SWDIO, 80 PC0/TCK/SWCLK, 81 VDD, 82 GND, 83 NC, 84 NC, 85 NC, 86 NC, 87 GND, 88 VDD25, 89 PB7/TRSTn, 90 PB6/C0+, 91 PB5/C1-, 92 PB4/C0-, 93 VDD, 94 GND, 95 PD4, 96 PD5, 97 GNDA, 98 VDDA, 99 PD6, 100 PD7/C0o

## LM3S1133-IBZ
designator U1
Stellaris ARM Cortex-M3 Microcontroller; MFG: Luminary Micro; Ordering: LM3S1133-IBZ; LMI Class: Fury
footprint BGA108C80P12X12_1000X1000X150 (BGA, 108-Leads, Body 10.0x10.0mm,  Pitch 0.80mm)
pins: A1 ADC1, A2 NC, A3 NC, A4 NC, A5 GNDA, A6 PB4/C0-, A7 PB6/C0+, A8 PB7/TRSTn, A9 PC0/TCK/SWCLK, A10 PC3/TDO/SWO, A11 PE0/SSI1Clk, A12 PE3/SSI1Tx, B1 ADC0, B2 NC, B3 NC, B4 NC, B5 GNDA, B6 GND, B7 PB5/CCP5, B8 PC2/TDI, B9 PC1/TMS/SWDIO, B10 CMOD1, B11 PE2/SSI1Rx, B12 PE1/SSI1Fss, C1 NC, C2 NC, C3 VDD25, C4 GND, C5 GND, C6 VDDA, C7 VDDA, C8 PH1/CCP7, C9 PH0/CCP6, C10 NC, C11 PB2/I2C0SCL, C12 PB3/I2C0SDA, D1 PE4, D2 PE5, D3 VDD25, D10 NC, D11 NC, D12 PB1/CCP2, E1 PD4, E2 PD5, E3 LDO, E10 VDD33, E11 CMOD0, E12 PB0/CCP0, F1 NC, F2 PD6/Fault, F3 VDD25, F10 GND, F11 GND, F12 GND, G1 PD0/PWM0, G2 PD1/PWM1, G3 VDD25, G10 VDD33, G11 VDD33, G12 VDD33, H1 PD3/U1Tx, H2 PD2/U1Rx, H3 GND, H10 VDD33, H11 RSTn, H12 PF1, J1 NC, J2 NC, J3 GND, J10 GND, J11 PF2, J12 PF3, K1 PG0/U2Rx, K2 PG1/U2Tx, K3 NC, K4 NC, K5 GND, K6 GND, K7 VDD33, K8 VDD33, K9 VDD33, K10 GND, K11 XOSC0, K12 XOSC1, L1 PC4, L2 NC, L3 PA0/U0Rx, L4 PA3/SSI0Fss, L5 PA4/SSI0Rx, L6 PA6/CCP1, L7 NC, L8 NC, L9 NC, L10 GND, L11 OSC0, L12 VBAT, M1 PC5/C0o, M2 PC6/CCP3, M3 PA1/U0Tx, M4 PA2/SSI0Clk, M5 PA5/SSI0Tx, M6 PA7/CCP4, M7 NC, M8 NC, M9 PF0, M10 WAKEn, M11 OSC1, M12 HIBn

## LM3S1133-IQC
designator U?
Stellaris ARM Cortex-M3 Microcontroller; MFG: Luminary Micro; Ordering: LM3S1133-IQC; LMI Class: Fury
footprint QFP50P1600X1600X160-100N
pins: 1 ADC0, 2 ADC1, 3 VDDA, 4 GNDA, 5 PE5, 6 PE4, 7 LDO, 8 VDD, 9 GND, 10 PD0/PWM0, 11 PD1/PWM1, 12 PD2/U1Rx, 13 PD3/U1Tx, 14 VDD25, 15 GND, 16 NC, 17 NC, 18 PG1/U2Tx, 19 PG0/U2Rx, 20 VDD, 21 GND, 22 NC, 23 PC6/CCP3, 24 PC5/C0o, 25 PC4, 26 PA0/U0Rx, 27 PA1/U0Tx, 28 PA2/SSI0Clk, 29 PA3/SSI0Fss, 30 PA4/SSI0Rx, 31 PA5/SSI0Tx, 32 VDD, 33 GND, 34 PA6/CCP1, 35 PA7/CCP4, 36 NC, 37 NC, 38 VDD25, 39 GND, 40 NC, 41 NC, 42 NC, 43 NC, 44 VDD, 45 GND, 46 NC, 47 PF0, 48 OSC0, 49 OSC1, 50 WAKEn, 51 HIBn, 52 XOSC0, 53 XOSC1, 54 GND, 55 VBAT, 56 VDD, 57 GND, 58 NC, 59 PF3, 60 PF2, 61 PF1, 62 VDD25, 63 GND, 64 RSTn, 65 CMOD0, 66 PB0/CCP0, 67 PB1/CCP2, 68 VDD, 69 GND, 70 PB2/I2C0SCL, 71 PB3/I2C0SDA, 72 PE0/SSI1Clk, 73 PE1/SSI1Fss, 74 PE2/SSI1Rx, 75 PE3/SSI1Tx, 76 CMOD1, 77 PC3/TDO/SWO, 78 PC2/TDI, 79 PC1/TMS/SWDIO, 80 PC0/TCK/SWCLK, 81 VDD, 82 GND, 83 NC, 84 NC, 85 PH1/CCP7, 86 PH0/CCP6, 87 GND, 88 VDD25, 89 PB7/TRSTn, 90 PB6/C0+, 91 PB5/CCP5, 92 PB4/C0-, 93 VDD, 94 GND, 95 PD4, 96 PD5, 97 GNDA, 98 VDDA, 99 PD6/Fault, 100 NC

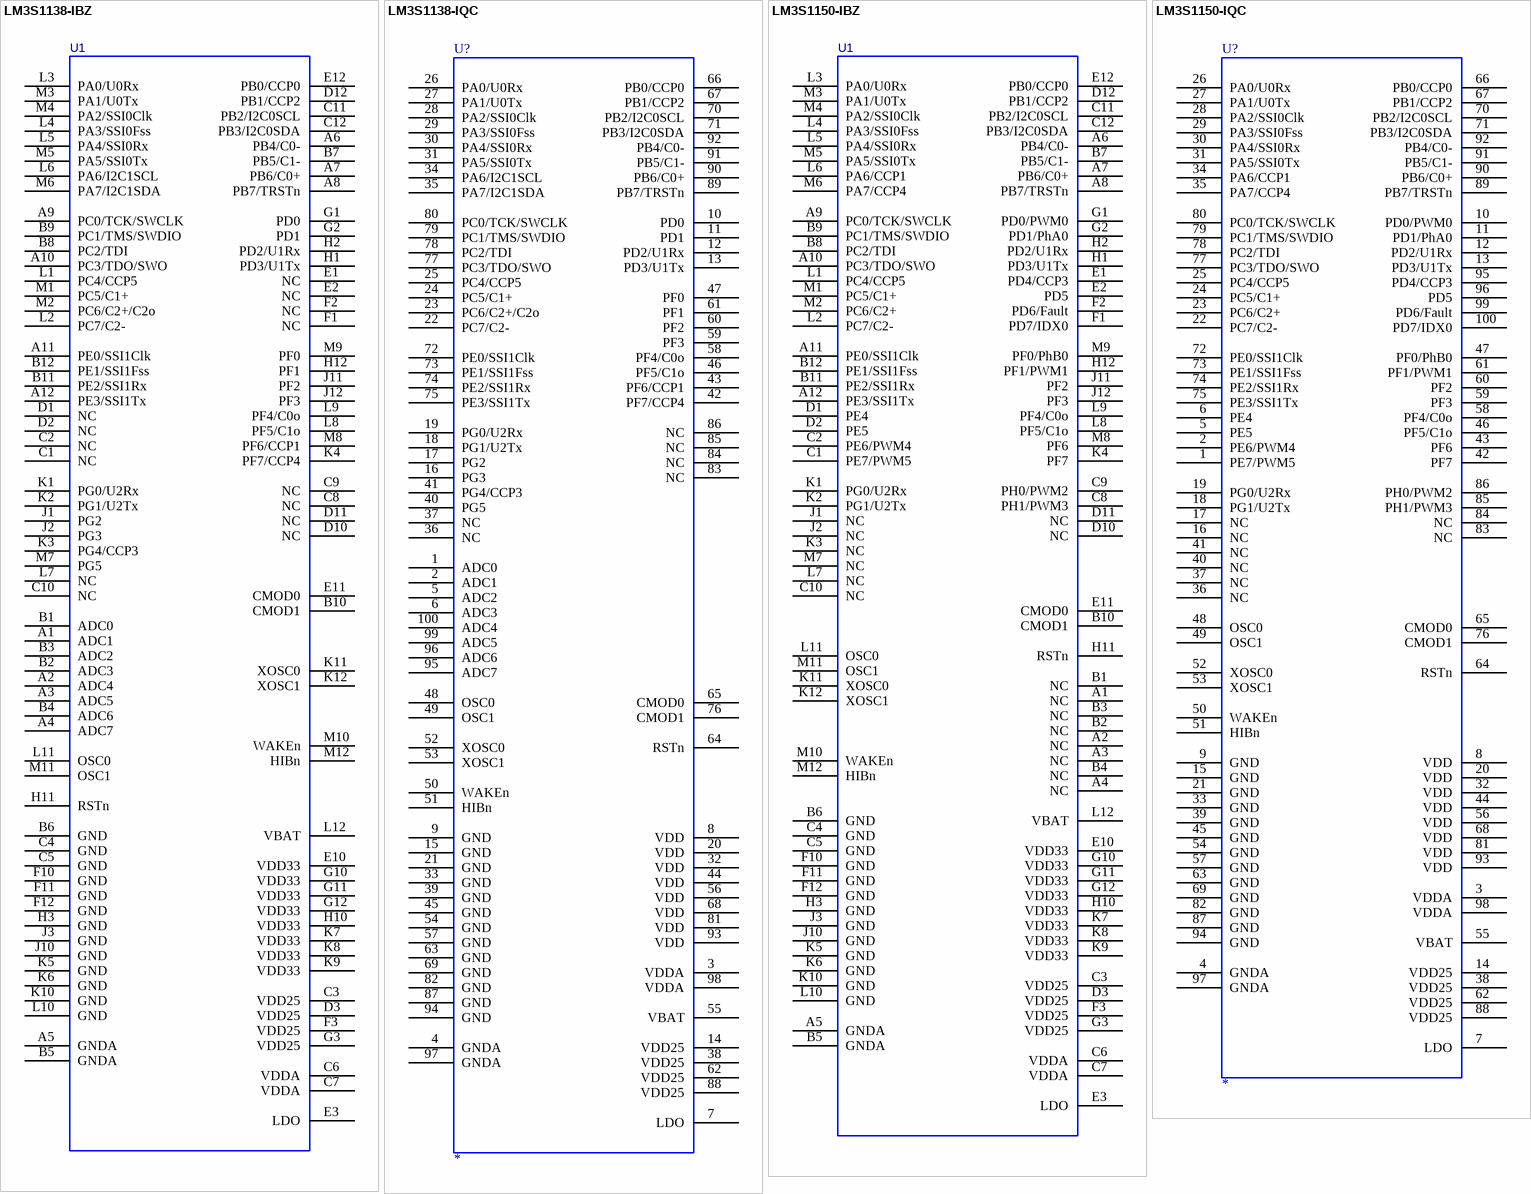
[diagram p5: symbols LM3S1138-IBZ to LM3S1150-IQC]

## LM3S1138-IBZ
designator U1
Stellaris ARM Cortex-M3 Microcontroller; MFG: Luminary Micro; Ordering: LM3S1138-IBZ; LMI Class: Fury
footprint BGA108C80P12X12_1000X1000X150 (BGA, 108-Leads, Body 10.0x10.0mm,  Pitch 0.80mm)
pins: A1 ADC1, A2 ADC4, A3 ADC5, A4 ADC7, A5 GNDA, A6 PB4/C0-, A7 PB6/C0+, A8 PB7/TRSTn, A9 PC0/TCK/SWCLK, A10 PC3/TDO/SWO, A11 PE0/SSI1Clk, A12 PE3/SSI1Tx, B1 ADC0, B2 ADC3, B3 ADC2, B4 ADC6, B5 GNDA, B6 GND, B7 PB5/C1-, B8 PC2/TDI, B9 PC1/TMS/SWDIO, B10 CMOD1, B11 PE2/SSI1Rx, B12 PE1/SSI1Fss, C1 NC, C2 NC, C3 VDD25, C4 GND, C5 GND, C6 VDDA, C7 VDDA, C8 NC, C9 NC, C10 NC, C11 PB2/I2C0SCL, C12 PB3/I2C0SDA, D1 NC, D2 NC, D3 VDD25, D10 NC, D11 NC, D12 PB1/CCP2, E1 NC, E2 NC, E3 LDO, E10 VDD33, E11 CMOD0, E12 PB0/CCP0, F1 NC, F2 NC, F3 VDD25, F10 GND, F11 GND, F12 GND, G1 PD0, G2 PD1, G3 VDD25, G10 VDD33, G11 VDD33, G12 VDD33, H1 PD3/U1Tx, H2 PD2/U1Rx, H3 GND, H10 VDD33, H11 RSTn, H12 PF1, J1 PG2, J2 PG3, J3 GND, J10 GND, J11 PF2, J12 PF3, K1 PG0/U2Rx, K2 PG1/U2Tx, K3 PG4/CCP3, K4 PF7/CCP4, K5 GND, K6 GND, K7 VDD33, K8 VDD33, K9 VDD33, K10 GND, K11 XOSC0, K12 XOSC1, L1 PC4/CCP5, L2 PC7/C2-, L3 PA0/U0Rx, L4 PA3/SSI0Fss, L5 PA4/SSI0Rx, L6 PA6/I2C1SCL, L7 NC, L8 PF5/C1o, L9 PF4/C0o, L10 GND, L11 OSC0, L12 VBAT, M1 PC5/C1+, M2 PC6/C2+/C2o, M3 PA1/U0Tx, M4 PA2/SSI0Clk, M5 PA5/SSI0Tx, M6 PA7/I2C1SDA, M7 PG5, M8 PF6/CCP1, M9 PF0, M10 WAKEn, M11 OSC1, M12 HIBn

## LM3S1138-IQC
designator U?
Stellaris ARM Cortex-M3 Microcontroller; MFG: Luminary Micro; Ordering: LM3S1138-IQC; LMI Class: Fury
footprint QFP50P1600X1600X160-100N
pins: 1 ADC0, 2 ADC1, 3 VDDA, 4 GNDA, 5 ADC2, 6 ADC3, 7 LDO, 8 VDD, 9 GND, 10 PD0, 11 PD1, 12 PD2/U1Rx, 13 PD3/U1Tx, 14 VDD25, 15 GND, 16 PG3, 17 PG2, 18 PG1/U2Tx, 19 PG0/U2Rx, 20 VDD, 21 GND, 22 PC7/C2-, 23 PC6/C2+/C2o, 24 PC5/C1+, 25 PC4/CCP5, 26 PA0/U0Rx, 27 PA1/U0Tx, 28 PA2/SSI0Clk, 29 PA3/SSI0Fss, 30 PA4/SSI0Rx, 31 PA5/SSI0Tx, 32 VDD, 33 GND, 34 PA6/I2C1SCL, 35 PA7/I2C1SDA, 36 NC, 37 NC, 38 VDD25, 39 GND, 40 PG5, 41 PG4/CCP3, 42 PF7/CCP4, 43 PF6/CCP1, 44 VDD, 45 GND, 46 PF5/C1o, 47 PF0, 48 OSC0, 49 OSC1, 50 WAKEn, 51 HIBn, 52 XOSC0, 53 XOSC1, 54 GND, 55 VBAT, 56 VDD, 57 GND, 58 PF4/C0o, 59 PF3, 60 PF2, 61 PF1, 62 VDD25, 63 GND, 64 RSTn, 65 CMOD0, 66 PB0/CCP0, 67 PB1/CCP2, 68 VDD, 69 GND, 70 PB2/I2C0SCL, 71 PB3/I2C0SDA, 72 PE0/SSI1Clk, 73 PE1/SSI1Fss, 74 PE2/SSI1Rx, 75 PE3/SSI1Tx, 76 CMOD1, 77 PC3/TDO/SWO, 78 PC2/TDI, 79 PC1/TMS/SWDIO, 80 PC0/TCK/SWCLK, 81 VDD, 82 GND, 83 NC, 84 NC, 85 NC, 86 NC, 87 GND, 88 VDD25, 89 PB7/TRSTn, 90 PB6/C0+, 91 PB5/C1-, 92 PB4/C0-, 93 VDD, 94 GND, 95 ADC7, 96 ADC6, 97 GNDA, 98 VDDA, 99 ADC5, 100 ADC4

## LM3S1150-IBZ
designator U1
Stellaris ARM Cortex-M3 Microcontroller; MFG: Luminary Micro; Ordering: LM3S1150-IBZ; LMI Class: Fury
footprint BGA108C80P12X12_1000X1000X150 (BGA, 108-Leads, Body 10.0x10.0mm,  Pitch 0.80mm)
pins: A1 NC, A2 NC, A3 NC, A4 NC, A5 GNDA, A6 PB4/C0-, A7 PB6/C0+, A8 PB7/TRSTn, A9 PC0/TCK/SWCLK, A10 PC3/TDO/SWO, A11 PE0/SSI1Clk, A12 PE3/SSI1Tx, B1 NC, B2 NC, B3 NC, B4 NC, B5 GNDA, B6 GND, B7 PB5/C1-, B8 PC2/TDI, B9 PC1/TMS/SWDIO, B10 CMOD1, B11 PE2/SSI1Rx, B12 PE1/SSI1Fss, C1 PE7/PWM5, C2 PE6/PWM4, C3 VDD25, C4 GND, C5 GND, C6 VDDA, C7 VDDA, C8 PH1/PWM3, C9 PH0/PWM2, C10 NC, C11 PB2/I2C0SCL, C12 PB3/I2C0SDA, D1 PE4, D2 PE5, D3 VDD25, D10 NC, D11 NC, D12 PB1/CCP2, E1 PD4/CCP3, E2 PD5, E3 LDO, E10 VDD33, E11 CMOD0, E12 PB0/CCP0, F1 PD7/IDX0, F2 PD6/Fault, F3 VDD25, F10 GND, F11 GND, F12 GND, G1 PD0/PWM0, G2 PD1/PhA0, G3 VDD25, G10 VDD33, G11 VDD33, G12 VDD33, H1 PD3/U1Tx, H2 PD2/U1Rx, H3 GND, H10 VDD33, H11 RSTn, H12 PF1/PWM1, J1 NC, J2 NC, J3 GND, J10 GND, J11 PF2, J12 PF3, K1 PG0/U2Rx, K2 PG1/U2Tx, K3 NC, K4 PF7, K5 GND, K6 GND, K7 VDD33, K8 VDD33, K9 VDD33, K10 GND, K11 XOSC0, K12 XOSC1, L1 PC4/CCP5, L2 PC7/C2-, L3 PA0/U0Rx, L4 PA3/SSI0Fss, L5 PA4/SSI0Rx, L6 PA6/CCP1, L7 NC, L8 PF5/C1o, L9 PF4/C0o, L10 GND, L11 OSC0, L12 VBAT, M1 PC5/C1+, M2 PC6/C2+, M3 PA1/U0Tx, M4 PA2/SSI0Clk, M5 PA5/SSI0Tx, M6 PA7/CCP4, M7 NC, M8 PF6, M9 PF0/PhB0, M10 WAKEn, M11 OSC1, M12 HIBn

## LM3S1150-IQC
designator U?
Stellaris ARM Cortex-M3 Microcontroller; MFG: Luminary Micro; Ordering: LM3S1150-IQC; LMI Class: Fury
footprint QFP50P1600X1600X160-100N
pins: 1 PE7/PWM5, 2 PE6/PWM4, 3 VDDA, 4 GNDA, 5 PE5, 6 PE4, 7 LDO, 8 VDD, 9 GND, 10 PD0/PWM0, 11 PD1/PhA0, 12 PD2/U1Rx, 13 PD3/U1Tx, 14 VDD25, 15 GND, 16 NC, 17 NC, 18 PG1/U2Tx, 19 PG0/U2Rx, 20 VDD, 21 GND, 22 PC7/C2-, 23 PC6/C2+, 24 PC5/C1+, 25 PC4/CCP5, 26 PA0/U0Rx, 27 PA1/U0Tx, 28 PA2/SSI0Clk, 29 PA3/SSI0Fss, 30 PA4/SSI0Rx, 31 PA5/SSI0Tx, 32 VDD, 33 GND, 34 PA6/CCP1, 35 PA7/CCP4, 36 NC, 37 NC, 38 VDD25, 39 GND, 40 NC, 41 NC, 42 PF7, 43 PF6, 44 VDD, 45 GND, 46 PF5/C1o, 47 PF0/PhB0, 48 OSC0, 49 OSC1, 50 WAKEn, 51 HIBn, 52 XOSC0, 53 XOSC1, 54 GND, 55 VBAT, 56 VDD, 57 GND, 58 PF4/C0o, 59 PF3, 60 PF2, 61 PF1/PWM1, 62 VDD25, 63 GND, 64 RSTn, 65 CMOD0, 66 PB0/CCP0, 67 PB1/CCP2, 68 VDD, 69 GND, 70 PB2/I2C0SCL, 71 PB3/I2C0SDA, 72 PE0/SSI1Clk, 73 PE1/SSI1Fss, 74 PE2/SSI1Rx, 75 PE3/SSI1Tx, 76 CMOD1, 77 PC3/TDO/SWO, 78 PC2/TDI, 79 PC1/TMS/SWDIO, 80 PC0/TCK/SWCLK, 81 VDD, 82 GND, 83 NC, 84 NC, 85 PH1/PWM3, 86 PH0/PWM2, 87 GND, 88 VDD25, 89 PB7/TRSTn, 90 PB6/C0+, 91 PB5/C1-, 92 PB4/C0-, 93 VDD, 94 GND, 95 PD4/CCP3, 96 PD5, 97 GNDA, 98 VDDA, 99 PD6/Fault, 100 PD7/IDX0

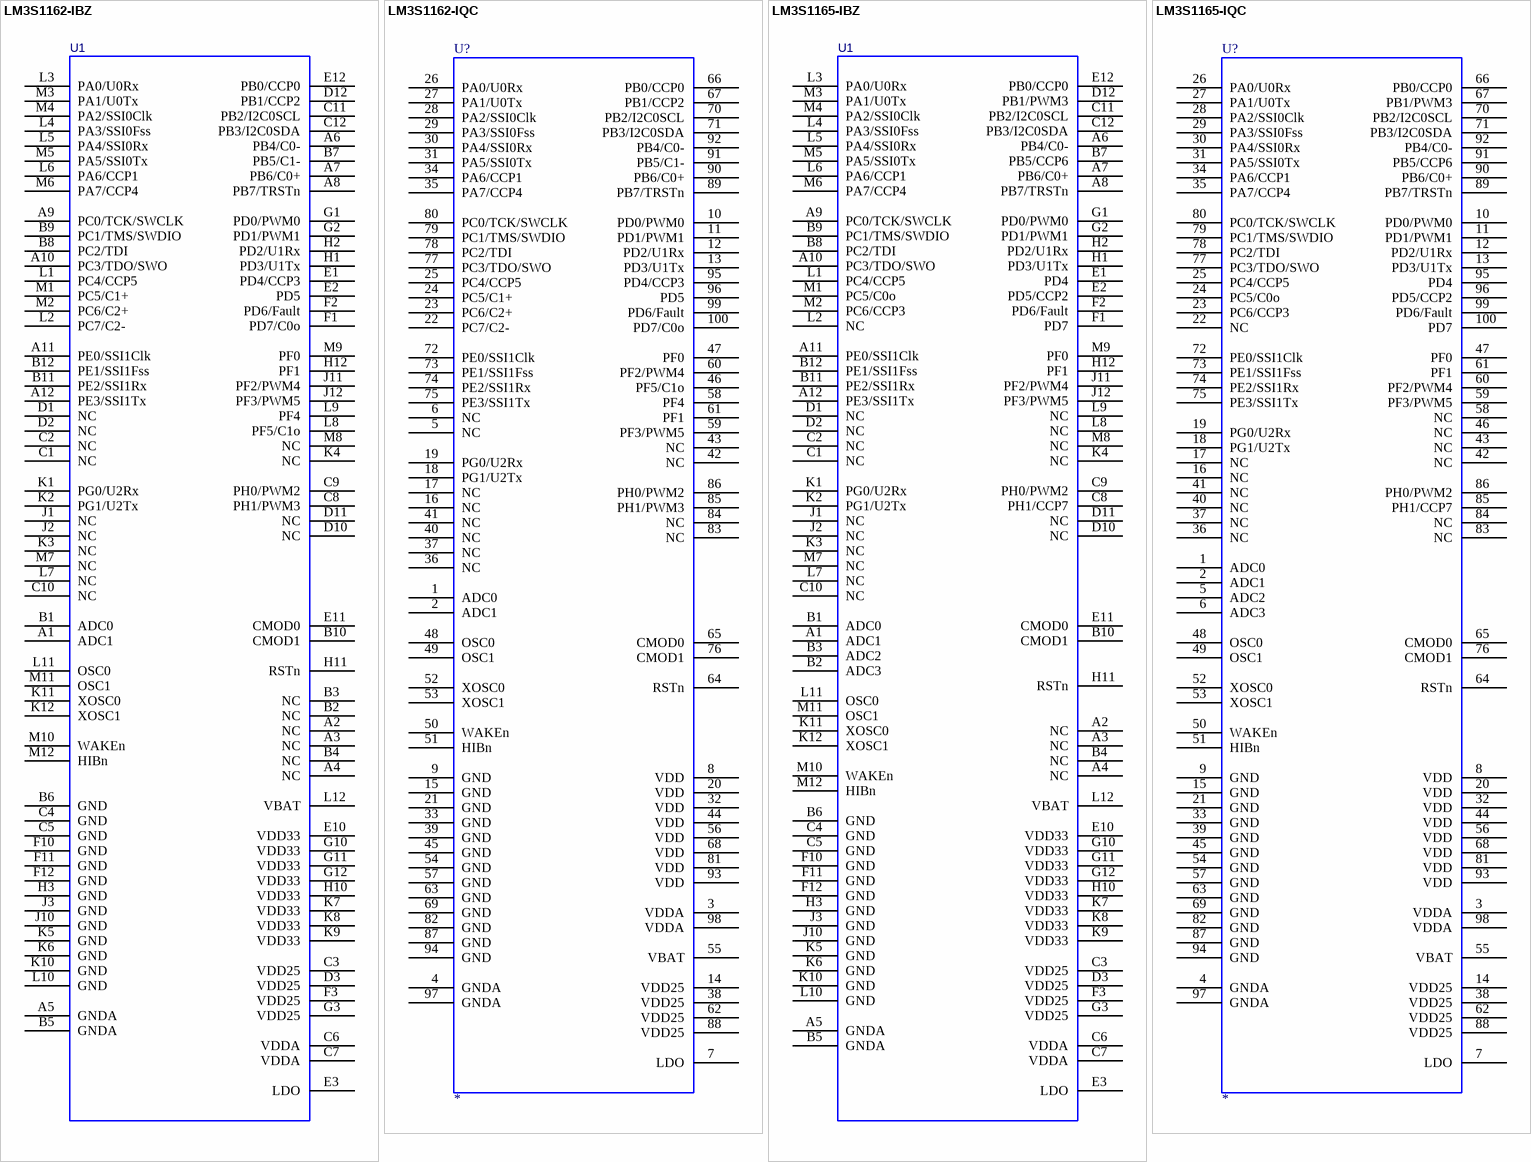
[diagram p6: symbols LM3S1162-IBZ to LM3S1165-IQC]

## LM3S1162-IBZ
designator U1
Stellaris ARM Cortex-M3 Microcontroller; MFG: Luminary Micro; Ordering: LM3S1162-IBZ; LMI Class: Fury
footprint BGA108C80P12X12_1000X1000X150 (BGA, 108-Leads, Body 10.0x10.0mm,  Pitch 0.80mm)
pins: A1 ADC1, A2 NC, A3 NC, A4 NC, A5 GNDA, A6 PB4/C0-, A7 PB6/C0+, A8 PB7/TRSTn, A9 PC0/TCK/SWCLK, A10 PC3/TDO/SWO, A11 PE0/SSI1Clk, A12 PE3/SSI1Tx, B1 ADC0, B2 NC, B3 NC, B4 NC, B5 GNDA, B6 GND, B7 PB5/C1-, B8 PC2/TDI, B9 PC1/TMS/SWDIO, B10 CMOD1, B11 PE2/SSI1Rx, B12 PE1/SSI1Fss, C1 NC, C2 NC, C3 VDD25, C4 GND, C5 GND, C6 VDDA, C7 VDDA, C8 PH1/PWM3, C9 PH0/PWM2, C10 NC, C11 PB2/I2C0SCL, C12 PB3/I2C0SDA, D1 NC, D2 NC, D3 VDD25, D10 NC, D11 NC, D12 PB1/CCP2, E1 PD4/CCP3, E2 PD5, E3 LDO, E10 VDD33, E11 CMOD0, E12 PB0/CCP0, F1 PD7/C0o, F2 PD6/Fault, F3 VDD25, F10 GND, F11 GND, F12 GND, G1 PD0/PWM0, G2 PD1/PWM1, G3 VDD25, G10 VDD33, G11 VDD33, G12 VDD33, H1 PD3/U1Tx, H2 PD2/U1Rx, H3 GND, H10 VDD33, H11 RSTn, H12 PF1, J1 NC, J2 NC, J3 GND, J10 GND, J11 PF2/PWM4, J12 PF3/PWM5, K1 PG0/U2Rx, K2 PG1/U2Tx, K3 NC, K4 NC, K5 GND, K6 GND, K7 VDD33, K8 VDD33, K9 VDD33, K10 GND, K11 XOSC0, K12 XOSC1, L1 PC4/CCP5, L2 PC7/C2-, L3 PA0/U0Rx, L4 PA3/SSI0Fss, L5 PA4/SSI0Rx, L6 PA6/CCP1, L7 NC, L8 PF5/C1o, L9 PF4, L10 GND, L11 OSC0, L12 VBAT, M1 PC5/C1+, M2 PC6/C2+, M3 PA1/U0Tx, M4 PA2/SSI0Clk, M5 PA5/SSI0Tx, M6 PA7/CCP4, M7 NC, M8 NC, M9 PF0, M10 WAKEn, M11 OSC1, M12 HIBn

## LM3S1162-IQC
designator U?
Stellaris ARM Cortex-M3 Microcontroller; MFG: Luminary Micro; Ordering: LM3S1162-IQC; LMI Class: Fury
footprint QFP50P1600X1600X160-100N
pins: 1 ADC0, 2 ADC1, 3 VDDA, 4 GNDA, 5 NC, 6 NC, 7 LDO, 8 VDD, 9 GND, 10 PD0/PWM0, 11 PD1/PWM1, 12 PD2/U1Rx, 13 PD3/U1Tx, 14 VDD25, 15 GND, 16 NC, 17 NC, 18 PG1/U2Tx, 19 PG0/U2Rx, 20 VDD, 21 GND, 22 PC7/C2-, 23 PC6/C2+, 24 PC5/C1+, 25 PC4/CCP5, 26 PA0/U0Rx, 27 PA1/U0Tx, 28 PA2/SSI0Clk, 29 PA3/SSI0Fss, 30 PA4/SSI0Rx, 31 PA5/SSI0Tx, 32 VDD, 33 GND, 34 PA6/CCP1, 35 PA7/CCP4, 36 NC, 37 NC, 38 VDD25, 39 GND, 40 NC, 41 NC, 42 NC, 43 NC, 44 VDD, 45 GND, 46 PF5/C1o, 47 PF0, 48 OSC0, 49 OSC1, 50 WAKEn, 51 HIBn, 52 XOSC0, 53 XOSC1, 54 GND, 55 VBAT, 56 VDD, 57 GND, 58 PF4, 59 PF3/PWM5, 60 PF2/PWM4, 61 PF1, 62 VDD25, 63 GND, 64 RSTn, 65 CMOD0, 66 PB0/CCP0, 67 PB1/CCP2, 68 VDD, 69 GND, 70 PB2/I2C0SCL, 71 PB3/I2C0SDA, 72 PE0/SSI1Clk, 73 PE1/SSI1Fss, 74 PE2/SSI1Rx, 75 PE3/SSI1Tx, 76 CMOD1, 77 PC3/TDO/SWO, 78 PC2/TDI, 79 PC1/TMS/SWDIO, 80 PC0/TCK/SWCLK, 81 VDD, 82 GND, 83 NC, 84 NC, 85 PH1/PWM3, 86 PH0/PWM2, 87 GND, 88 VDD25, 89 PB7/TRSTn, 90 PB6/C0+, 91 PB5/C1-, 92 PB4/C0-, 93 VDD, 94 GND, 95 PD4/CCP3, 96 PD5, 97 GNDA, 98 VDDA, 99 PD6/Fault, 100 PD7/C0o

## LM3S1165-IBZ
designator U1
Stellaris ARM Cortex-M3 Microcontroller; MFG: Luminary Micro; Ordering: LM3S1165-IBZ; LMI Class: Fury
footprint BGA108C80P12X12_1000X1000X150 (BGA, 108-Leads, Body 10.0x10.0mm,  Pitch 0.80mm)
pins: A1 ADC1, A2 NC, A3 NC, A4 NC, A5 GNDA, A6 PB4/C0-, A7 PB6/C0+, A8 PB7/TRSTn, A9 PC0/TCK/SWCLK, A10 PC3/TDO/SWO, A11 PE0/SSI1Clk, A12 PE3/SSI1Tx, B1 ADC0, B2 ADC3, B3 ADC2, B4 NC, B5 GNDA, B6 GND, B7 PB5/CCP6, B8 PC2/TDI, B9 PC1/TMS/SWDIO, B10 CMOD1, B11 PE2/SSI1Rx, B12 PE1/SSI1Fss, C1 NC, C2 NC, C3 VDD25, C4 GND, C5 GND, C6 VDDA, C7 VDDA, C8 PH1/CCP7, C9 PH0/PWM2, C10 NC, C11 PB2/I2C0SCL, C12 PB3/I2C0SDA, D1 NC, D2 NC, D3 VDD25, D10 NC, D11 NC, D12 PB1/PWM3, E1 PD4, E2 PD5/CCP2, E3 LDO, E10 VDD33, E11 CMOD0, E12 PB0/CCP0, F1 PD7, F2 PD6/Fault, F3 VDD25, F10 GND, F11 GND, F12 GND, G1 PD0/PWM0, G2 PD1/PWM1, G3 VDD25, G10 VDD33, G11 VDD33, G12 VDD33, H1 PD3/U1Tx, H2 PD2/U1Rx, H3 GND, H10 VDD33, H11 RSTn, H12 PF1, J1 NC, J2 NC, J3 GND, J10 GND, J11 PF2/PWM4, J12 PF3/PWM5, K1 PG0/U2Rx, K2 PG1/U2Tx, K3 NC, K4 NC, K5 GND, K6 GND, K7 VDD33, K8 VDD33, K9 VDD33, K10 GND, K11 XOSC0, K12 XOSC1, L1 PC4/CCP5, L2 NC, L3 PA0/U0Rx, L4 PA3/SSI0Fss, L5 PA4/SSI0Rx, L6 PA6/CCP1, L7 NC, L8 NC, L9 NC, L10 GND, L11 OSC0, L12 VBAT, M1 PC5/C0o, M2 PC6/CCP3, M3 PA1/U0Tx, M4 PA2/SSI0Clk, M5 PA5/SSI0Tx, M6 PA7/CCP4, M7 NC, M8 NC, M9 PF0, M10 WAKEn, M11 OSC1, M12 HIBn

## LM3S1165-IQC
designator U?
Stellaris ARM Cortex-M3 Microcontroller; MFG: Luminary Micro; Ordering: LM3S1165-IQC; LMI Class: Fury
footprint QFP50P1600X1600X160-100N
pins: 1 ADC0, 2 ADC1, 3 VDDA, 4 GNDA, 5 ADC2, 6 ADC3, 7 LDO, 8 VDD, 9 GND, 10 PD0/PWM0, 11 PD1/PWM1, 12 PD2/U1Rx, 13 PD3/U1Tx, 14 VDD25, 15 GND, 16 NC, 17 NC, 18 PG1/U2Tx, 19 PG0/U2Rx, 20 VDD, 21 GND, 22 NC, 23 PC6/CCP3, 24 PC5/C0o, 25 PC4/CCP5, 26 PA0/U0Rx, 27 PA1/U0Tx, 28 PA2/SSI0Clk, 29 PA3/SSI0Fss, 30 PA4/SSI0Rx, 31 PA5/SSI0Tx, 32 VDD, 33 GND, 34 PA6/CCP1, 35 PA7/CCP4, 36 NC, 37 NC, 38 VDD25, 39 GND, 40 NC, 41 NC, 42 NC, 43 NC, 44 VDD, 45 GND, 46 NC, 47 PF0, 48 OSC0, 49 OSC1, 50 WAKEn, 51 HIBn, 52 XOSC0, 53 XOSC1, 54 GND, 55 VBAT, 56 VDD, 57 GND, 58 NC, 59 PF3/PWM5, 60 PF2/PWM4, 61 PF1, 62 VDD25, 63 GND, 64 RSTn, 65 CMOD0, 66 PB0/CCP0, 67 PB1/PWM3, 68 VDD, 69 GND, 70 PB2/I2C0SCL, 71 PB3/I2C0SDA, 72 PE0/SSI1Clk, 73 PE1/SSI1Fss, 74 PE2/SSI1Rx, 75 PE3/SSI1Tx, 76 CMOD1, 77 PC3/TDO/SWO, 78 PC2/TDI, 79 PC1/TMS/SWDIO, 80 PC0/TCK/SWCLK, 81 VDD, 82 GND, 83 NC, 84 NC, 85 PH1/CCP7, 86 PH0/PWM2, 87 GND, 88 VDD25, 89 PB7/TRSTn, 90 PB6/C0+, 91 PB5/CCP6, 92 PB4/C0-, 93 VDD, 94 GND, 95 PD4, 96 PD5/CCP2, 97 GNDA, 98 VDDA, 99 PD6/Fault, 100 PD7

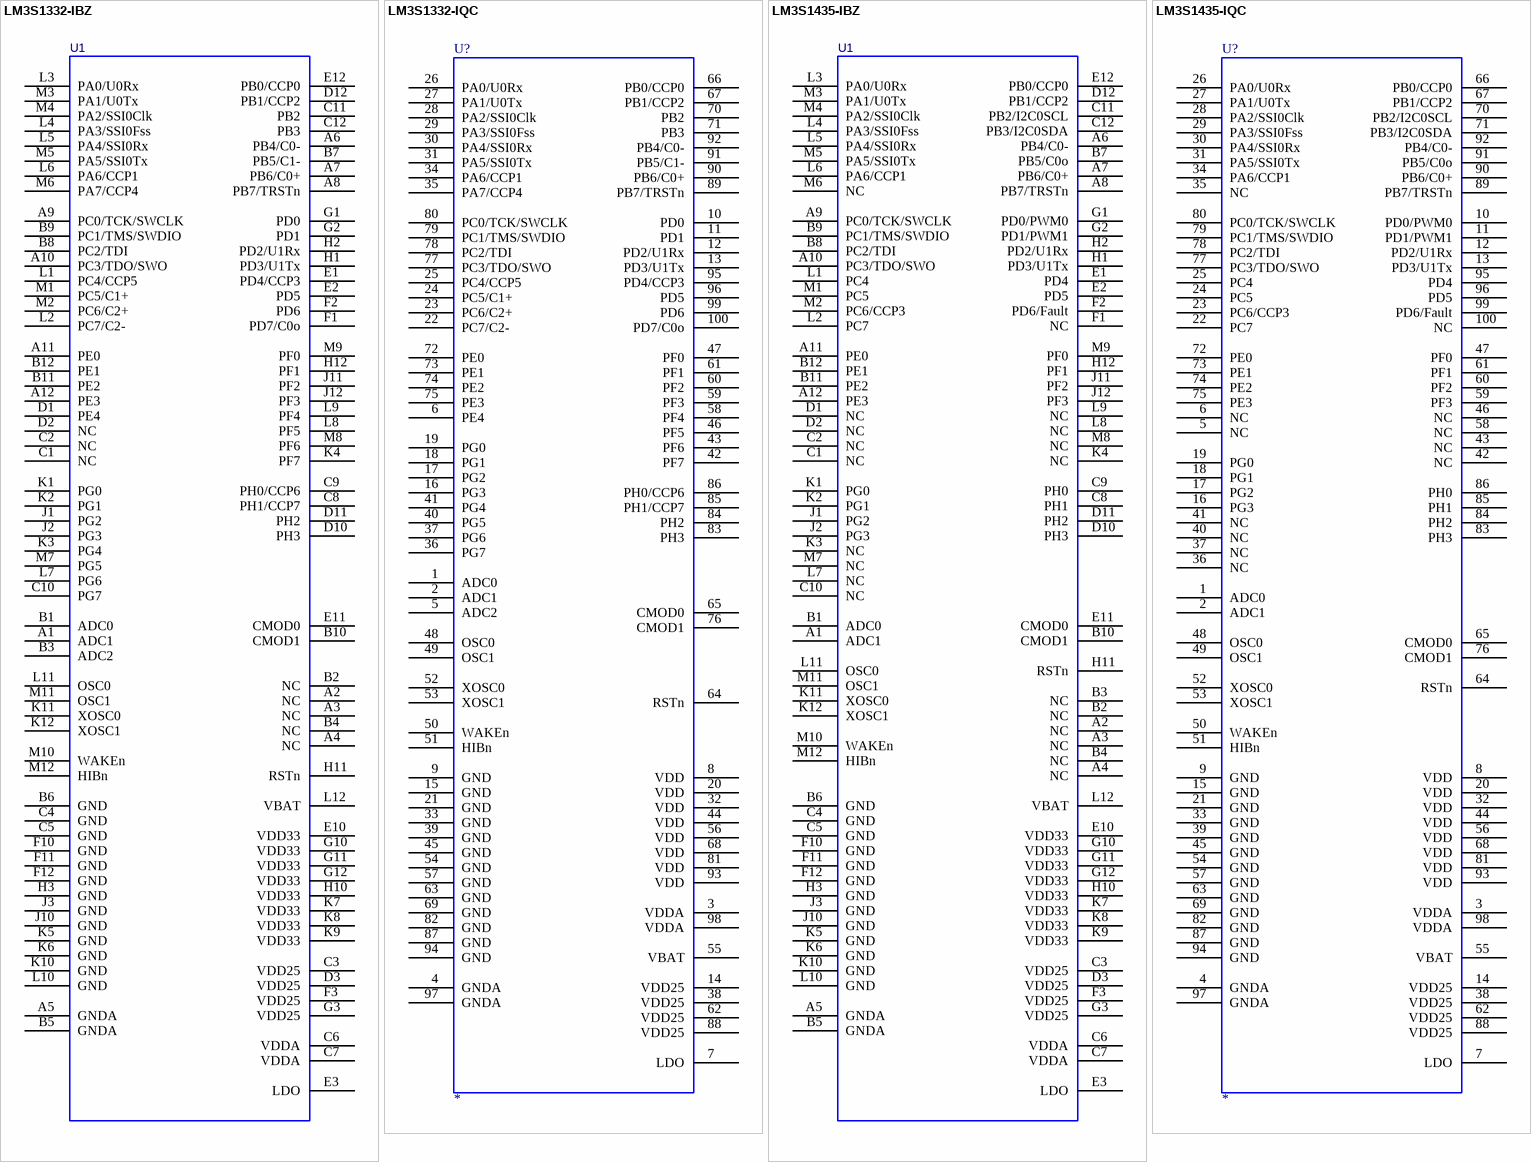
[diagram p7: symbols LM3S1332-IBZ to LM3S1435-IQC]

## LM3S1332-IBZ
designator U1
Stellaris ARM Cortex-M3 Microcontroller; MFG: Luminary Micro; Ordering: LM3S1332-IBZ; LMI Class: Fury
footprint BGA108C80P12X12_1000X1000X150 (BGA, 108-Leads, Body 10.0x10.0mm,  Pitch 0.80mm)
pins: A1 ADC1, A2 NC, A3 NC, A4 NC, A5 GNDA, A6 PB4/C0-, A7 PB6/C0+, A8 PB7/TRSTn, A9 PC0/TCK/SWCLK, A10 PC3/TDO/SWO, A11 PE0, A12 PE3, B1 ADC0, B2 NC, B3 ADC2, B4 NC, B5 GNDA, B6 GND, B7 PB5/C1-, B8 PC2/TDI, B9 PC1/TMS/SWDIO, B10 CMOD1, B11 PE2, B12 PE1, C1 NC, C2 NC, C3 VDD25, C4 GND, C5 GND, C6 VDDA, C7 VDDA, C8 PH1/CCP7, C9 PH0/CCP6, C10 PG7, C11 PB2, C12 PB3, D1 PE4, D2 NC, D3 VDD25, D10 PH3, D11 PH2, D12 PB1/CCP2, E1 PD4/CCP3, E2 PD5, E3 LDO, E10 VDD33, E11 CMOD0, E12 PB0/CCP0, F1 PD7/C0o, F2 PD6, F3 VDD25, F10 GND, F11 GND, F12 GND, G1 PD0, G2 PD1, G3 VDD25, G10 VDD33, G11 VDD33, G12 VDD33, H1 PD3/U1Tx, H2 PD2/U1Rx, H3 GND, H10 VDD33, H11 RSTn, H12 PF1, J1 PG2, J2 PG3, J3 GND, J10 GND, J11 PF2, J12 PF3, K1 PG0, K2 PG1, K3 PG4, K4 PF7, K5 GND, K6 GND, K7 VDD33, K8 VDD33, K9 VDD33, K10 GND, K11 XOSC0, K12 XOSC1, L1 PC4/CCP5, L2 PC7/C2-, L3 PA0/U0Rx, L4 PA3/SSI0Fss, L5 PA4/SSI0Rx, L6 PA6/CCP1, L7 PG6, L8 PF5, L9 PF4, L10 GND, L11 OSC0, L12 VBAT, M1 PC5/C1+, M2 PC6/C2+, M3 PA1/U0Tx, M4 PA2/SSI0Clk, M5 PA5/SSI0Tx, M6 PA7/CCP4, M7 PG5, M8 PF6, M9 PF0, M10 WAKEn, M11 OSC1, M12 HIBn

## LM3S1332-IQC
designator U?
Stellaris ARM Cortex-M3 Microcontroller; MFG: Luminary Micro; Ordering: LM3S1332-IQC; LMI Class: Fury
footprint QFP50P1600X1600X160-100N
pins: 1 ADC0, 2 ADC1, 3 VDDA, 4 GNDA, 5 ADC2, 6 PE4, 7 LDO, 8 VDD, 9 GND, 10 PD0, 11 PD1, 12 PD2/U1Rx, 13 PD3/U1Tx, 14 VDD25, 15 GND, 16 PG3, 17 PG2, 18 PG1, 19 PG0, 20 VDD, 21 GND, 22 PC7/C2-, 23 PC6/C2+, 24 PC5/C1+, 25 PC4/CCP5, 26 PA0/U0Rx, 27 PA1/U0Tx, 28 PA2/SSI0Clk, 29 PA3/SSI0Fss, 30 PA4/SSI0Rx, 31 PA5/SSI0Tx, 32 VDD, 33 GND, 34 PA6/CCP1, 35 PA7/CCP4, 36 PG7, 37 PG6, 38 VDD25, 39 GND, 40 PG5, 41 PG4, 42 PF7, 43 PF6, 44 VDD, 45 GND, 46 PF5, 47 PF0, 48 OSC0, 49 OSC1, 50 WAKEn, 51 HIBn, 52 XOSC0, 53 XOSC1, 54 GND, 55 VBAT, 56 VDD, 57 GND, 58 PF4, 59 PF3, 60 PF2, 61 PF1, 62 VDD25, 63 GND, 64 RSTn, 65 CMOD0, 66 PB0/CCP0, 67 PB1/CCP2, 68 VDD, 69 GND, 70 PB2, 71 PB3, 72 PE0, 73 PE1, 74 PE2, 75 PE3, 76 CMOD1, 77 PC3/TDO/SWO, 78 PC2/TDI, 79 PC1/TMS/SWDIO, 80 PC0/TCK/SWCLK, 81 VDD, 82 GND, 83 PH3, 84 PH2, 85 PH1/CCP7, 86 PH0/CCP6, 87 GND, 88 VDD25, 89 PB7/TRSTn, 90 PB6/C0+, 91 PB5/C1-, 92 PB4/C0-, 93 VDD, 94 GND, 95 PD4/CCP3, 96 PD5, 97 GNDA, 98 VDDA, 99 PD6, 100 PD7/C0o

## LM3S1435-IBZ
designator U1
Stellaris ARM Cortex-M3 Microcontroller; MFG: Luminary Micro; Ordering: LM3S1435-IBZ; LMI Class: Fury
footprint BGA108C80P12X12_1000X1000X150 (BGA, 108-Leads, Body 10.0x10.0mm,  Pitch 0.80mm)
pins: A1 ADC1, A2 NC, A3 NC, A4 NC, A5 GNDA, A6 PB4/C0-, A7 PB6/C0+, A8 PB7/TRSTn, A9 PC0/TCK/SWCLK, A10 PC3/TDO/SWO, A11 PE0, A12 PE3, B1 ADC0, B2 NC, B3 NC, B4 NC, B5 GNDA, B6 GND, B7 PB5/C0o, B8 PC2/TDI, B9 PC1/TMS/SWDIO, B10 CMOD1, B11 PE2, B12 PE1, C1 NC, C2 NC, C3 VDD25, C4 GND, C5 GND, C6 VDDA, C7 VDDA, C8 PH1, C9 PH0, C10 NC, C11 PB2/I2C0SCL, C12 PB3/I2C0SDA, D1 NC, D2 NC, D3 VDD25, D10 PH3, D11 PH2, D12 PB1/CCP2, E1 PD4, E2 PD5, E3 LDO, E10 VDD33, E11 CMOD0, E12 PB0/CCP0, F1 NC, F2 PD6/Fault, F3 VDD25, F10 GND, F11 GND, F12 GND, G1 PD0/PWM0, G2 PD1/PWM1, G3 VDD25, G10 VDD33, G11 VDD33, G12 VDD33, H1 PD3/U1Tx, H2 PD2/U1Rx, H3 GND, H10 VDD33, H11 RSTn, H12 PF1, J1 PG2, J2 PG3, J3 GND, J10 GND, J11 PF2, J12 PF3, K1 PG0, K2 PG1, K3 NC, K4 NC, K5 GND, K6 GND, K7 VDD33, K8 VDD33, K9 VDD33, K10 GND, K11 XOSC0, K12 XOSC1, L1 PC4, L2 PC7, L3 PA0/U0Rx, L4 PA3/SSI0Fss, L5 PA4/SSI0Rx, L6 PA6/CCP1, L7 NC, L8 NC, L9 NC, L10 GND, L11 OSC0, L12 VBAT, M1 PC5, M2 PC6/CCP3, M3 PA1/U0Tx, M4 PA2/SSI0Clk, M5 PA5/SSI0Tx, M6 NC, M7 NC, M8 NC, M9 PF0, M10 WAKEn, M11 OSC1, M12 HIBn

## LM3S1435-IQC
designator U?
Stellaris ARM Cortex-M3 Microcontroller; MFG: Luminary Micro; Ordering: LM3S1435-IQC; LMI Class: Fury
footprint QFP50P1600X1600X160-100N
pins: 1 ADC0, 2 ADC1, 3 VDDA, 4 GNDA, 5 NC, 6 NC, 7 LDO, 8 VDD, 9 GND, 10 PD0/PWM0, 11 PD1/PWM1, 12 PD2/U1Rx, 13 PD3/U1Tx, 14 VDD25, 15 GND, 16 PG3, 17 PG2, 18 PG1, 19 PG0, 20 VDD, 21 GND, 22 PC7, 23 PC6/CCP3, 24 PC5, 25 PC4, 26 PA0/U0Rx, 27 PA1/U0Tx, 28 PA2/SSI0Clk, 29 PA3/SSI0Fss, 30 PA4/SSI0Rx, 31 PA5/SSI0Tx, 32 VDD, 33 GND, 34 PA6/CCP1, 35 NC, 36 NC, 37 NC, 38 VDD25, 39 GND, 40 NC, 41 NC, 42 NC, 43 NC, 44 VDD, 45 GND, 46 NC, 47 PF0, 48 OSC0, 49 OSC1, 50 WAKEn, 51 HIBn, 52 XOSC0, 53 XOSC1, 54 GND, 55 VBAT, 56 VDD, 57 GND, 58 NC, 59 PF3, 60 PF2, 61 PF1, 62 VDD25, 63 GND, 64 RSTn, 65 CMOD0, 66 PB0/CCP0, 67 PB1/CCP2, 68 VDD, 69 GND, 70 PB2/I2C0SCL, 71 PB3/I2C0SDA, 72 PE0, 73 PE1, 74 PE2, 75 PE3, 76 CMOD1, 77 PC3/TDO/SWO, 78 PC2/TDI, 79 PC1/TMS/SWDIO, 80 PC0/TCK/SWCLK, 81 VDD, 82 GND, 83 PH3, 84 PH2, 85 PH1, 86 PH0, 87 GND, 88 VDD25, 89 PB7/TRSTn, 90 PB6/C0+, 91 PB5/C0o, 92 PB4/C0-, 93 VDD, 94 GND, 95 PD4, 96 PD5, 97 GNDA, 98 VDDA, 99 PD6/Fault, 100 NC

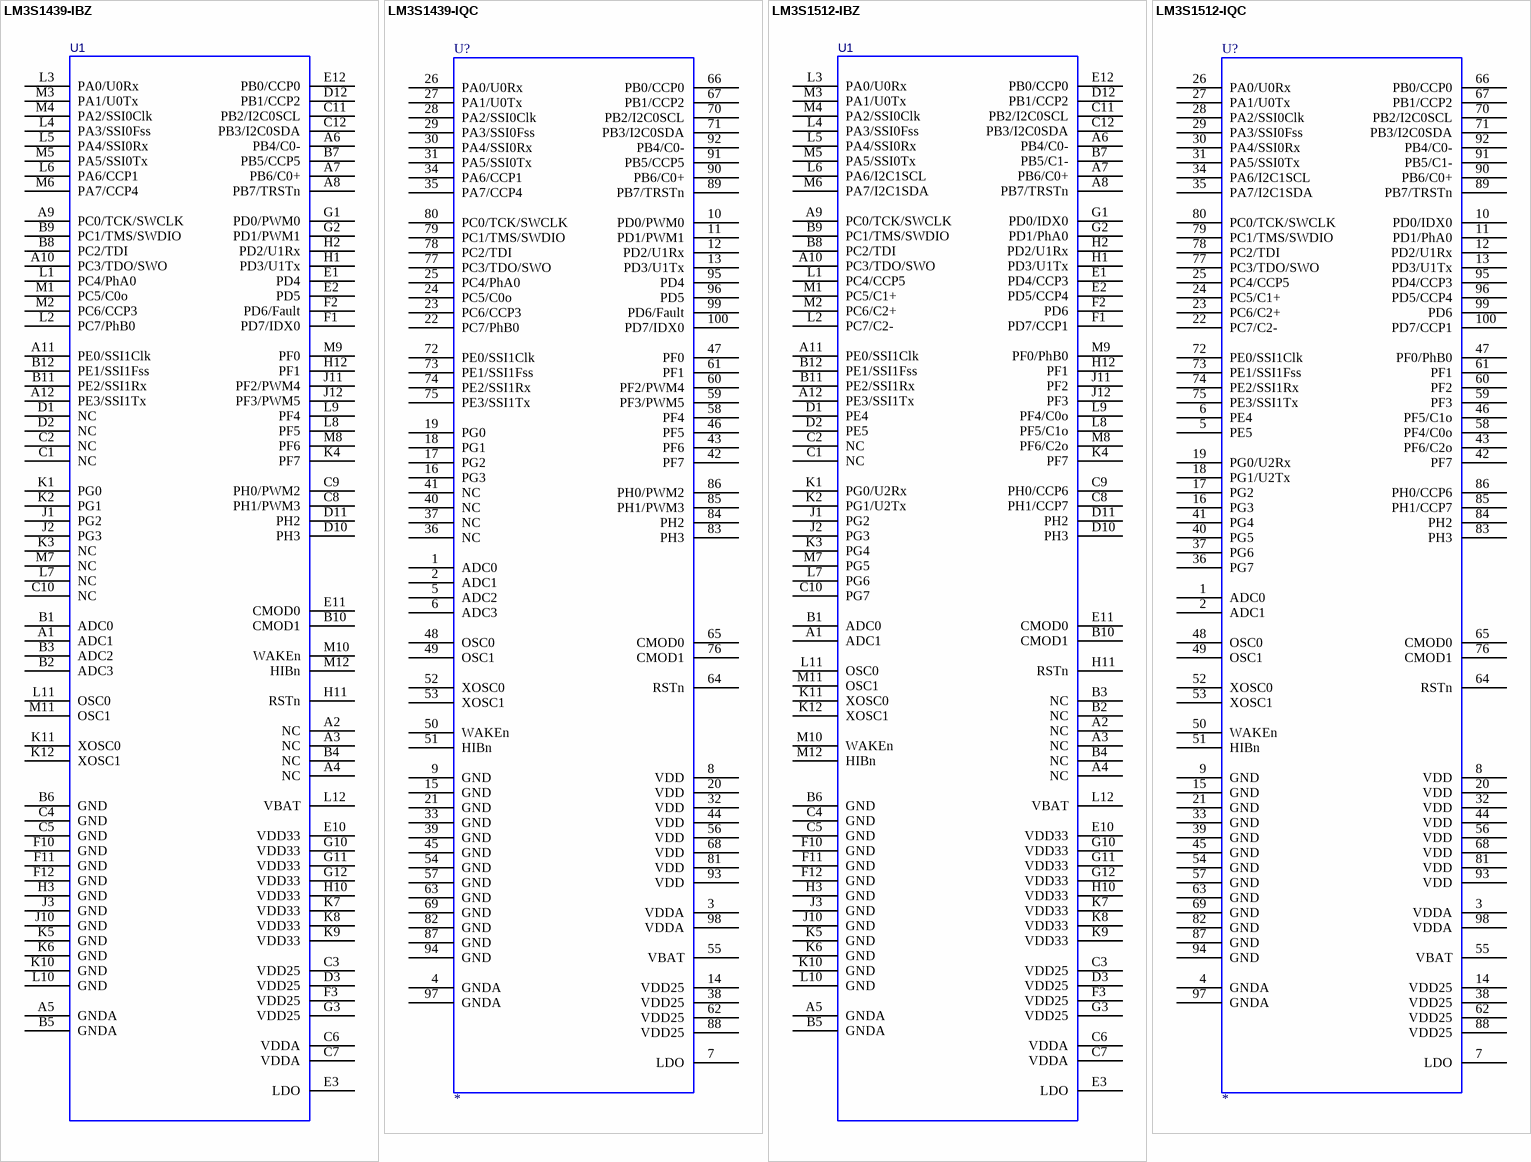
[diagram p8: symbols LM3S1439-IBZ to LM3S1512-IQC]

## LM3S1439-IBZ
designator U1
Stellaris ARM Cortex-M3 Microcontroller; MFG: Luminary Micro; Ordering: LM3S1439-IBZ; LMI Class: Fury
footprint BGA108C80P12X12_1000X1000X150 (BGA, 108-Leads, Body 10.0x10.0mm,  Pitch 0.80mm)
pins: A1 ADC1, A2 NC, A3 NC, A4 NC, A5 GNDA, A6 PB4/C0-, A7 PB6/C0+, A8 PB7/TRSTn, A9 PC0/TCK/SWCLK, A10 PC3/TDO/SWO, A11 PE0/SSI1Clk, A12 PE3/SSI1Tx, B1 ADC0, B2 ADC3, B3 ADC2, B4 NC, B5 GNDA, B6 GND, B7 PB5/CCP5, B8 PC2/TDI, B9 PC1/TMS/SWDIO, B10 CMOD1, B11 PE2/SSI1Rx, B12 PE1/SSI1Fss, C1 NC, C2 NC, C3 VDD25, C4 GND, C5 GND, C6 VDDA, C7 VDDA, C8 PH1/PWM3, C9 PH0/PWM2, C10 NC, C11 PB2/I2C0SCL, C12 PB3/I2C0SDA, D1 NC, D2 NC, D3 VDD25, D10 PH3, D11 PH2, D12 PB1/CCP2, E1 PD4, E2 PD5, E3 LDO, E10 VDD33, E11 CMOD0, E12 PB0/CCP0, F1 PD7/IDX0, F2 PD6/Fault, F3 VDD25, F10 GND, F11 GND, F12 GND, G1 PD0/PWM0, G2 PD1/PWM1, G3 VDD25, G10 VDD33, G11 VDD33, G12 VDD33, H1 PD3/U1Tx, H2 PD2/U1Rx, H3 GND, H10 VDD33, H11 RSTn, H12 PF1, J1 PG2, J2 PG3, J3 GND, J10 GND, J11 PF2/PWM4, J12 PF3/PWM5, K1 PG0, K2 PG1, K3 NC, K4 PF7, K5 GND, K6 GND, K7 VDD33, K8 VDD33, K9 VDD33, K10 GND, K11 XOSC0, K12 XOSC1, L1 PC4/PhA0, L2 PC7/PhB0, L3 PA0/U0Rx, L4 PA3/SSI0Fss, L5 PA4/SSI0Rx, L6 PA6/CCP1, L7 NC, L8 PF5, L9 PF4, L10 GND, L11 OSC0, L12 VBAT, M1 PC5/C0o, M2 PC6/CCP3, M3 PA1/U0Tx, M4 PA2/SSI0Clk, M5 PA5/SSI0Tx, M6 PA7/CCP4, M7 NC, M8 PF6, M9 PF0, M10 WAKEn, M11 OSC1, M12 HIBn

## LM3S1439-IQC
designator U?
Stellaris ARM Cortex-M3 Microcontroller; MFG: Luminary Micro; Ordering: LM3S1439-IQC; LMI Class: Fury
footprint QFP50P1600X1600X160-100N
pins: 1 ADC0, 2 ADC1, 3 VDDA, 4 GNDA, 5 ADC2, 6 ADC3, 7 LDO, 8 VDD, 9 GND, 10 PD0/PWM0, 11 PD1/PWM1, 12 PD2/U1Rx, 13 PD3/U1Tx, 14 VDD25, 15 GND, 16 PG3, 17 PG2, 18 PG1, 19 PG0, 20 VDD, 21 GND, 22 PC7/PhB0, 23 PC6/CCP3, 24 PC5/C0o, 25 PC4/PhA0, 26 PA0/U0Rx, 27 PA1/U0Tx, 28 PA2/SSI0Clk, 29 PA3/SSI0Fss, 30 PA4/SSI0Rx, 31 PA5/SSI0Tx, 32 VDD, 33 GND, 34 PA6/CCP1, 35 PA7/CCP4, 36 NC, 37 NC, 38 VDD25, 39 GND, 40 NC, 41 NC, 42 PF7, 43 PF6, 44 VDD, 45 GND, 46 PF5, 47 PF0, 48 OSC0, 49 OSC1, 50 WAKEn, 51 HIBn, 52 XOSC0, 53 XOSC1, 54 GND, 55 VBAT, 56 VDD, 57 GND, 58 PF4, 59 PF3/PWM5, 60 PF2/PWM4, 61 PF1, 62 VDD25, 63 GND, 64 RSTn, 65 CMOD0, 66 PB0/CCP0, 67 PB1/CCP2, 68 VDD, 69 GND, 70 PB2/I2C0SCL, 71 PB3/I2C0SDA, 72 PE0/SSI1Clk, 73 PE1/SSI1Fss, 74 PE2/SSI1Rx, 75 PE3/SSI1Tx, 76 CMOD1, 77 PC3/TDO/SWO, 78 PC2/TDI, 79 PC1/TMS/SWDIO, 80 PC0/TCK/SWCLK, 81 VDD, 82 GND, 83 PH3, 84 PH2, 85 PH1/PWM3, 86 PH0/PWM2, 87 GND, 88 VDD25, 89 PB7/TRSTn, 90 PB6/C0+, 91 PB5/CCP5, 92 PB4/C0-, 93 VDD, 94 GND, 95 PD4, 96 PD5, 97 GNDA, 98 VDDA, 99 PD6/Fault, 100 PD7/IDX0

## LM3S1512-IBZ
designator U1
Stellaris ARM Cortex-M3 Microcontroller; MFG: Luminary Micro; Ordering: LM3S1512-IBZ; LMI Class: Fury
footprint BGA108C80P12X12_1000X1000X150 (BGA, 108-Leads, Body 10.0x10.0mm,  Pitch 0.80mm)
pins: A1 ADC1, A2 NC, A3 NC, A4 NC, A5 GNDA, A6 PB4/C0-, A7 PB6/C0+, A8 PB7/TRSTn, A9 PC0/TCK/SWCLK, A10 PC3/TDO/SWO, A11 PE0/SSI1Clk, A12 PE3/SSI1Tx, B1 ADC0, B2 NC, B3 NC, B4 NC, B5 GNDA, B6 GND, B7 PB5/C1-, B8 PC2/TDI, B9 PC1/TMS/SWDIO, B10 CMOD1, B11 PE2/SSI1Rx, B12 PE1/SSI1Fss, C1 NC, C2 NC, C3 VDD25, C4 GND, C5 GND, C6 VDDA, C7 VDDA, C8 PH1/CCP7, C9 PH0/CCP6, C10 PG7, C11 PB2/I2C0SCL, C12 PB3/I2C0SDA, D1 PE4, D2 PE5, D3 VDD25, D10 PH3, D11 PH2, D12 PB1/CCP2, E1 PD4/CCP3, E2 PD5/CCP4, E3 LDO, E10 VDD33, E11 CMOD0, E12 PB0/CCP0, F1 PD7/CCP1, F2 PD6, F3 VDD25, F10 GND, F11 GND, F12 GND, G1 PD0/IDX0, G2 PD1/PhA0, G3 VDD25, G10 VDD33, G11 VDD33, G12 VDD33, H1 PD3/U1Tx, H2 PD2/U1Rx, H3 GND, H10 VDD33, H11 RSTn, H12 PF1, J1 PG2, J2 PG3, J3 GND, J10 GND, J11 PF2, J12 PF3, K1 PG0/U2Rx, K2 PG1/U2Tx, K3 PG4, K4 PF7, K5 GND, K6 GND, K7 VDD33, K8 VDD33, K9 VDD33, K10 GND, K11 XOSC0, K12 XOSC1, L1 PC4/CCP5, L2 PC7/C2-, L3 PA0/U0Rx, L4 PA3/SSI0Fss, L5 PA4/SSI0Rx, L6 PA6/I2C1SCL, L7 PG6, L8 PF5/C1o, L9 PF4/C0o, L10 GND, L11 OSC0, L12 VBAT, M1 PC5/C1+, M2 PC6/C2+, M3 PA1/U0Tx, M4 PA2/SSI0Clk, M5 PA5/SSI0Tx, M6 PA7/I2C1SDA, M7 PG5, M8 PF6/C2o, M9 PF0/PhB0, M10 WAKEn, M11 OSC1, M12 HIBn

## LM3S1512-IQC
designator U?
Stellaris ARM Cortex-M3 Microcontroller; MFG: Luminary Micro; Ordering: LM3S1512-IQC; LMI Class: Fury
footprint QFP50P1600X1600X160-100N
pins: 1 ADC0, 2 ADC1, 3 VDDA, 4 GNDA, 5 PE5, 6 PE4, 7 LDO, 8 VDD, 9 GND, 10 PD0/IDX0, 11 PD1/PhA0, 12 PD2/U1Rx, 13 PD3/U1Tx, 14 VDD25, 15 GND, 16 PG3, 17 PG2, 18 PG1/U2Tx, 19 PG0/U2Rx, 20 VDD, 21 GND, 22 PC7/C2-, 23 PC6/C2+, 24 PC5/C1+, 25 PC4/CCP5, 26 PA0/U0Rx, 27 PA1/U0Tx, 28 PA2/SSI0Clk, 29 PA3/SSI0Fss, 30 PA4/SSI0Rx, 31 PA5/SSI0Tx, 32 VDD, 33 GND, 34 PA6/I2C1SCL, 35 PA7/I2C1SDA, 36 PG7, 37 PG6, 38 VDD25, 39 GND, 40 PG5, 41 PG4, 42 PF7, 43 PF6/C2o, 44 VDD, 45 GND, 46 PF5/C1o, 47 PF0/PhB0, 48 OSC0, 49 OSC1, 50 WAKEn, 51 HIBn, 52 XOSC0, 53 XOSC1, 54 GND, 55 VBAT, 56 VDD, 57 GND, 58 PF4/C0o, 59 PF3, 60 PF2, 61 PF1, 62 VDD25, 63 GND, 64 RSTn, 65 CMOD0, 66 PB0/CCP0, 67 PB1/CCP2, 68 VDD, 69 GND, 70 PB2/I2C0SCL, 71 PB3/I2C0SDA, 72 PE0/SSI1Clk, 73 PE1/SSI1Fss, 74 PE2/SSI1Rx, 75 PE3/SSI1Tx, 76 CMOD1, 77 PC3/TDO/SWO, 78 PC2/TDI, 79 PC1/TMS/SWDIO, 80 PC0/TCK/SWCLK, 81 VDD, 82 GND, 83 PH3, 84 PH2, 85 PH1/CCP7, 86 PH0/CCP6, 87 GND, 88 VDD25, 89 PB7/TRSTn, 90 PB6/C0+, 91 PB5/C1-, 92 PB4/C0-, 93 VDD, 94 GND, 95 PD4/CCP3, 96 PD5/CCP4, 97 GNDA, 98 VDDA, 99 PD6, 100 PD7/CCP1

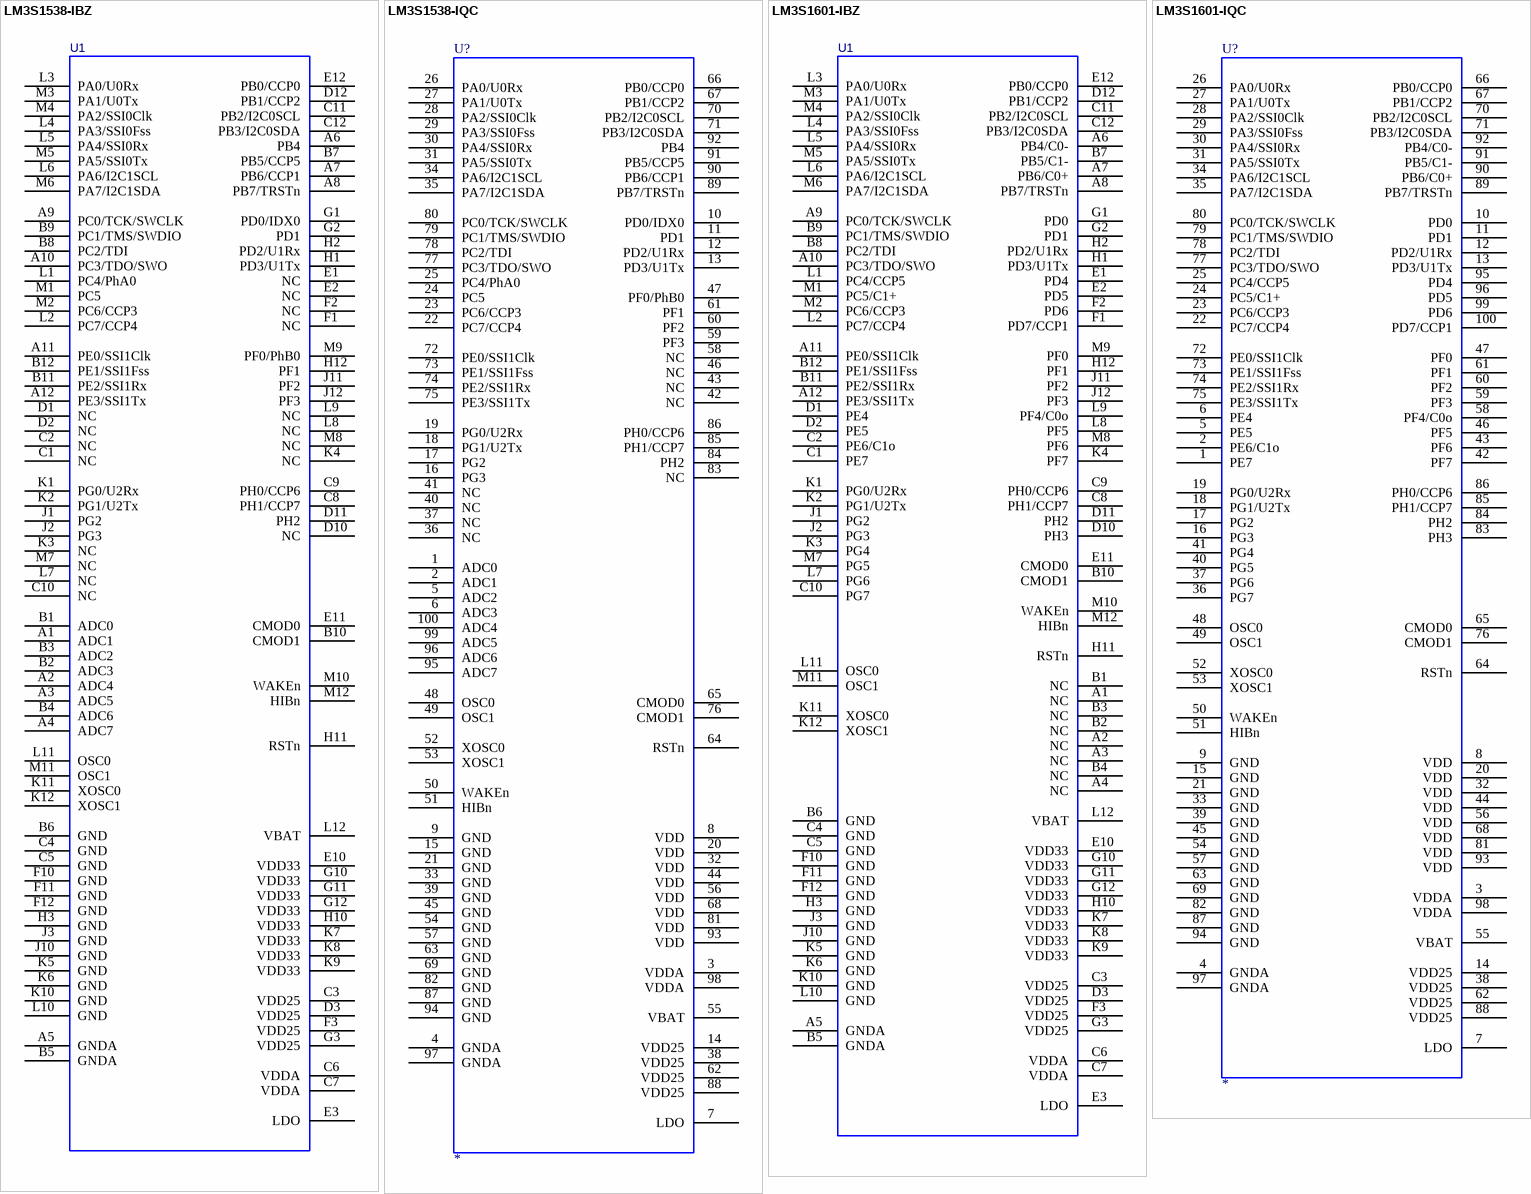
[diagram p9: symbols LM3S1538-IBZ to LM3S1601-IQC]

## LM3S1538-IBZ
designator U1
Stellaris ARM Cortex-M3 Microcontroller; MFG: Luminary Micro; Ordering: LM3S1538-IBZ; LMI Class: Fury
footprint BGA108C80P12X12_1000X1000X150 (BGA, 108-Leads, Body 10.0x10.0mm,  Pitch 0.80mm)
pins: A1 ADC1, A2 ADC4, A3 ADC5, A4 ADC7, A5 GNDA, A6 PB4, A7 PB6/CCP1, A8 PB7/TRSTn, A9 PC0/TCK/SWCLK, A10 PC3/TDO/SWO, A11 PE0/SSI1Clk, A12 PE3/SSI1Tx, B1 ADC0, B2 ADC3, B3 ADC2, B4 ADC6, B5 GNDA, B6 GND, B7 PB5/CCP5, B8 PC2/TDI, B9 PC1/TMS/SWDIO, B10 CMOD1, B11 PE2/SSI1Rx, B12 PE1/SSI1Fss, C1 NC, C2 NC, C3 VDD25, C4 GND, C5 GND, C6 VDDA, C7 VDDA, C8 PH1/CCP7, C9 PH0/CCP6, C10 NC, C11 PB2/I2C0SCL, C12 PB3/I2C0SDA, D1 NC, D2 NC, D3 VDD25, D10 NC, D11 PH2, D12 PB1/CCP2, E1 NC, E2 NC, E3 LDO, E10 VDD33, E11 CMOD0, E12 PB0/CCP0, F1 NC, F2 NC, F3 VDD25, F10 GND, F11 GND, F12 GND, G1 PD0/IDX0, G2 PD1, G3 VDD25, G10 VDD33, G11 VDD33, G12 VDD33, H1 PD3/U1Tx, H2 PD2/U1Rx, H3 GND, H10 VDD33, H11 RSTn, H12 PF1, J1 PG2, J2 PG3, J3 GND, J10 GND, J11 PF2, J12 PF3, K1 PG0/U2Rx, K2 PG1/U2Tx, K3 NC, K4 NC, K5 GND, K6 GND, K7 VDD33, K8 VDD33, K9 VDD33, K10 GND, K11 XOSC0, K12 XOSC1, L1 PC4/PhA0, L2 PC7/CCP4, L3 PA0/U0Rx, L4 PA3/SSI0Fss, L5 PA4/SSI0Rx, L6 PA6/I2C1SCL, L7 NC, L8 NC, L9 NC, L10 GND, L11 OSC0, L12 VBAT, M1 PC5, M2 PC6/CCP3, M3 PA1/U0Tx, M4 PA2/SSI0Clk, M5 PA5/SSI0Tx, M6 PA7/I2C1SDA, M7 NC, M8 NC, M9 PF0/PhB0, M10 WAKEn, M11 OSC1, M12 HIBn

## LM3S1538-IQC
designator U?
Stellaris ARM Cortex-M3 Microcontroller; MFG: Luminary Micro; Ordering: LM3S1538-IQC; LMI Class: Fury
footprint QFP50P1600X1600X160-100N
pins: 1 ADC0, 2 ADC1, 3 VDDA, 4 GNDA, 5 ADC2, 6 ADC3, 7 LDO, 8 VDD, 9 GND, 10 PD0/IDX0, 11 PD1, 12 PD2/U1Rx, 13 PD3/U1Tx, 14 VDD25, 15 GND, 16 PG3, 17 PG2, 18 PG1/U2Tx, 19 PG0/U2Rx, 20 VDD, 21 GND, 22 PC7/CCP4, 23 PC6/CCP3, 24 PC5, 25 PC4/PhA0, 26 PA0/U0Rx, 27 PA1/U0Tx, 28 PA2/SSI0Clk, 29 PA3/SSI0Fss, 30 PA4/SSI0Rx, 31 PA5/SSI0Tx, 32 VDD, 33 GND, 34 PA6/I2C1SCL, 35 PA7/I2C1SDA, 36 NC, 37 NC, 38 VDD25, 39 GND, 40 NC, 41 NC, 42 NC, 43 NC, 44 VDD, 45 GND, 46 NC, 47 PF0/PhB0, 48 OSC0, 49 OSC1, 50 WAKEn, 51 HIBn, 52 XOSC0, 53 XOSC1, 54 GND, 55 VBAT, 56 VDD, 57 GND, 58 NC, 59 PF3, 60 PF2, 61 PF1, 62 VDD25, 63 GND, 64 RSTn, 65 CMOD0, 66 PB0/CCP0, 67 PB1/CCP2, 68 VDD, 69 GND, 70 PB2/I2C0SCL, 71 PB3/I2C0SDA, 72 PE0/SSI1Clk, 73 PE1/SSI1Fss, 74 PE2/SSI1Rx, 75 PE3/SSI1Tx, 76 CMOD1, 77 PC3/TDO/SWO, 78 PC2/TDI, 79 PC1/TMS/SWDIO, 80 PC0/TCK/SWCLK, 81 VDD, 82 GND, 83 NC, 84 PH2, 85 PH1/CCP7, 86 PH0/CCP6, 87 GND, 88 VDD25, 89 PB7/TRSTn, 90 PB6/CCP1, 91 PB5/CCP5, 92 PB4, 93 VDD, 94 GND, 95 ADC7, 96 ADC6, 97 GNDA, 98 VDDA, 99 ADC5, 100 ADC4